# Altium schematic symbol library Sch_GB_lib.SchLib: 489 symbols (part 3 of 5)
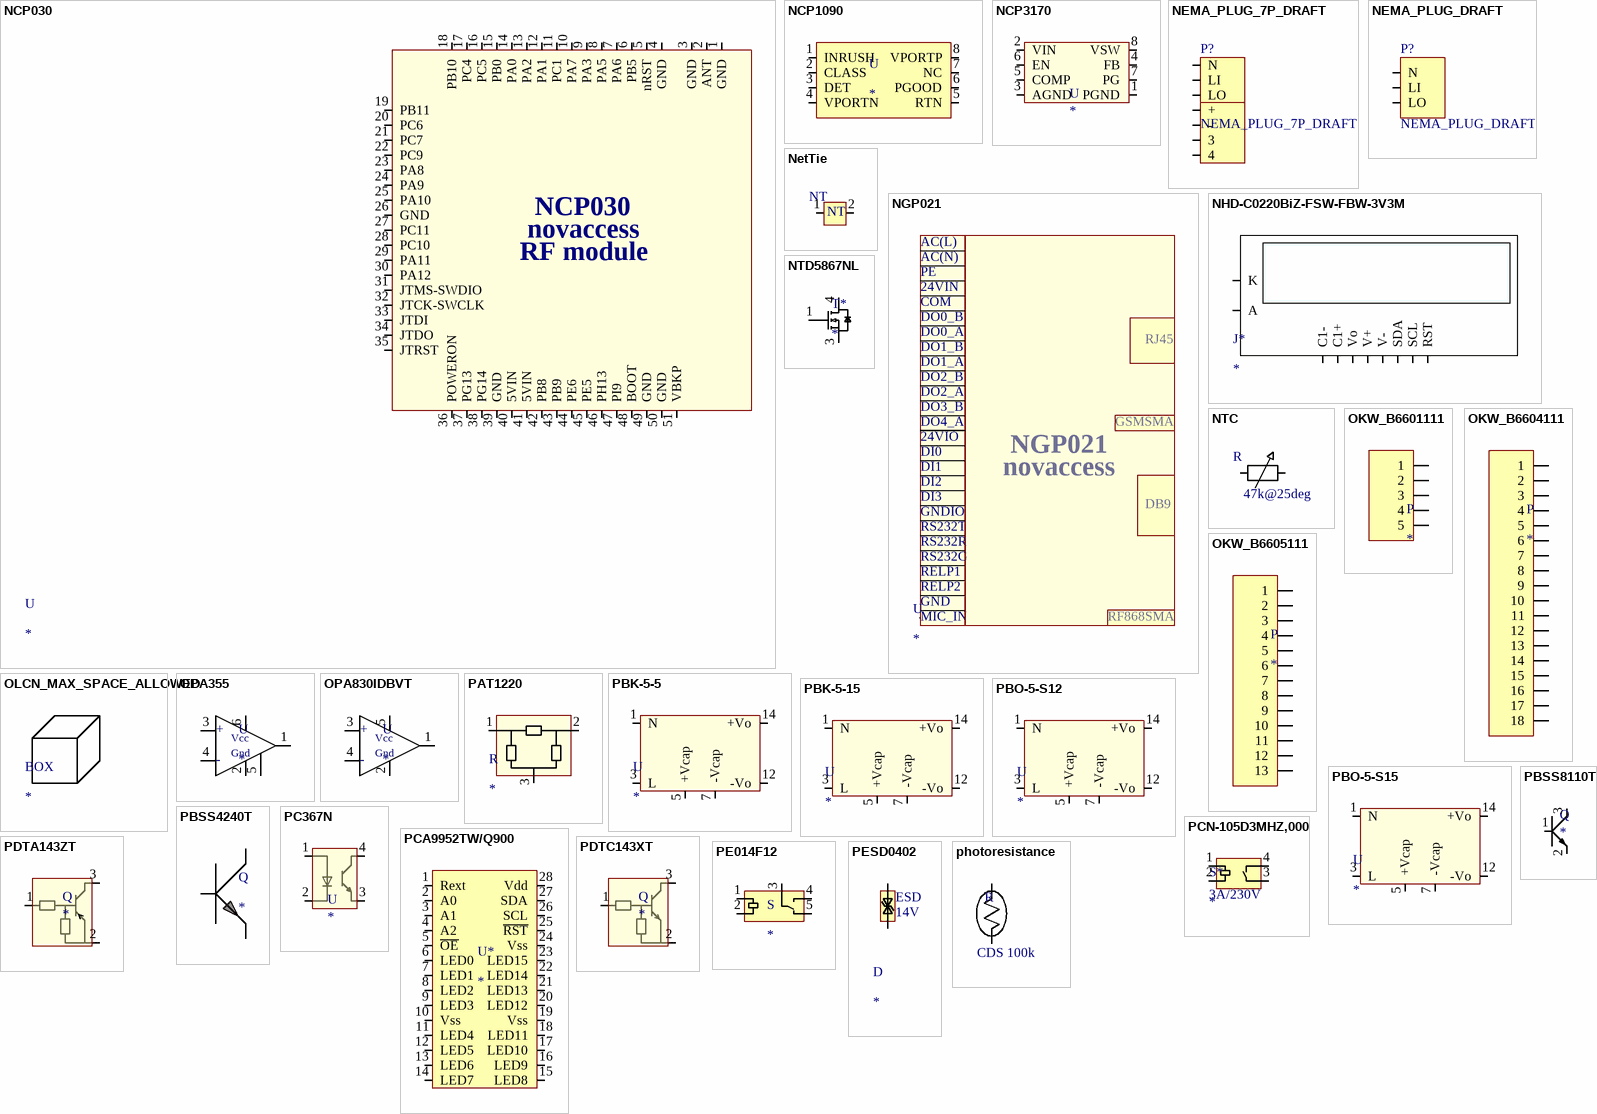
[diagram p19: symbols NCP030 to photoresistance]

## PBO-5-S12
designator U
AC DC CONVERTER 15V 5W; Alternate part: Mornsun LS05-15B12SS; Manufacturer: CUI Inc.; Manufacturer PartNum: PBO-5-S12; Digikey ref: 102-4079-ND; Farnell ref: *
footprint PBO-5 (CUI Inc AC-DC Power supply, 42x14x20mm)
pins: 1 N, 3 L, 5 +Vcap, 7 -Vcap, 12 -Vo, 14 +Vo

## PBO-5-S15
designator U
AC DC CONVERTER 15V 5W; Alternate part: Mornsun LS05-15B15SS; Digikey ref: 102-4080-ND; Farnell ref: *
footprint PBO-5 (CUI Inc AC-DC Power supply, 42x14x20mm)
pins: 1 N, 3 L, 5 +Vcap, 7 -Vcap, 12 -Vo, 14 +Vo

## PBSS4240T
designator Q
Farnell ref: 8736243
footprint SOT23 (SOT23, 2.9x1.3mm, 3 leads)
pins: 1, 2, 3

## PBSS8110T
designator Q
Manufacturer: NXP; Manufacturer PartNum: PBSS8110T,215; Digikey ref: 568-4344-1-ND
footprint sot23 (SOT23, 2.9x1.3mm, 3 leads)
pins: 1 Base, 2 Emitter, 3 Colloctor

## PC367N
designator U
Farnell ref: 1243876; Digikey ref: *
footprint OPTO_SHARP (Custom Optocoupler case for Sharp PC367N)
pins: 1 A, 2 C, 3 E, 4 C

## PCA9952TW/Q900
designator U*
Digikey ref: 568-10954-1-ND; Farnell ref: *; status: *
footprint HTSSOP28 (TSOP, 128-Leads, Body 9.7x4.4mm, Pitch 0.65mm, IPC Medium Density)
pins: 1 Rext, 2 A0, 3 A1, 4 A2, 5 ~{OE}, 6 LED0, 7 LED1, 8 LED2, 9 LED3, 10 Vss, 11 LED4, 12 LED5, 13 LED6, 14 LED7, 15 LED8, 16 LED9, 17 LED10, 18 LED11, 19 Vss, 20 LED12, 21 LED13, 22 LED14, 23 LED15, 24 Vss, 25 ~{RST}, 26 SCL, 27 SDA, 28 Vdd

## PCN-105D3MHZ,000
designator S*  Ratings: 3A/230V
RELAY GENERAL PURPOSE SPST 3A 5V; Manufacturer PartNum: PCN-105D3MHZ,000; Manufacturer: Tyco Connectivity; Digikey ref: PCN-105D3MHZ 000-ND
footprint TYCO_PCN (Slimline PCB Relay PCN, 230V/3A switching)
pins: 1 A2, 2 A1, 3 I, 4 O1

## PDTA143ZT
designator Q
Farnell ref: 8736960
footprint SOT23 (SOT23, 2.9x1.3mm, 3 leads)
pins: 1 base, 2 emitter, 3 collector

## PDTC143XT
designator Q
Farnell ref: 8737258
footprint SOT23 (SOT23, 2.9x1.3mm, 3 leads)
pins: 1 base, 2 emitter, 3 collector

## PE014F12
designator S
TYCO bistable relay, 230V/5A; Farnell ref: 9913459
footprint PE014F12 (TYCo bistable relay, 230V/5A)
pins: 1 A2, 2 A1, 3 I, 4 O1, 5 O2

## PESD0402
designator D  Uclamp: 14V  Purpose: ESD
TVS DIODE 14VWM 40VC 0402; Manufacturer PartNum: PESD0402-140; Manufacturer: Littelfuse Inc; Digikey ref: PESD0402-140CT-ND
footprint 0402_ (SMD 0402 package, 0.6x1.5mm)
pins: 1, 2

## photoresistance
designator R  value CDS 100k  (hidden comment: *)
photoresistor; Farnell ref: 4083544
footprint photoresistor_vertical_mount (generic CDS photoresistor with 2 leads, vertical mounting)
pins: 1, 2

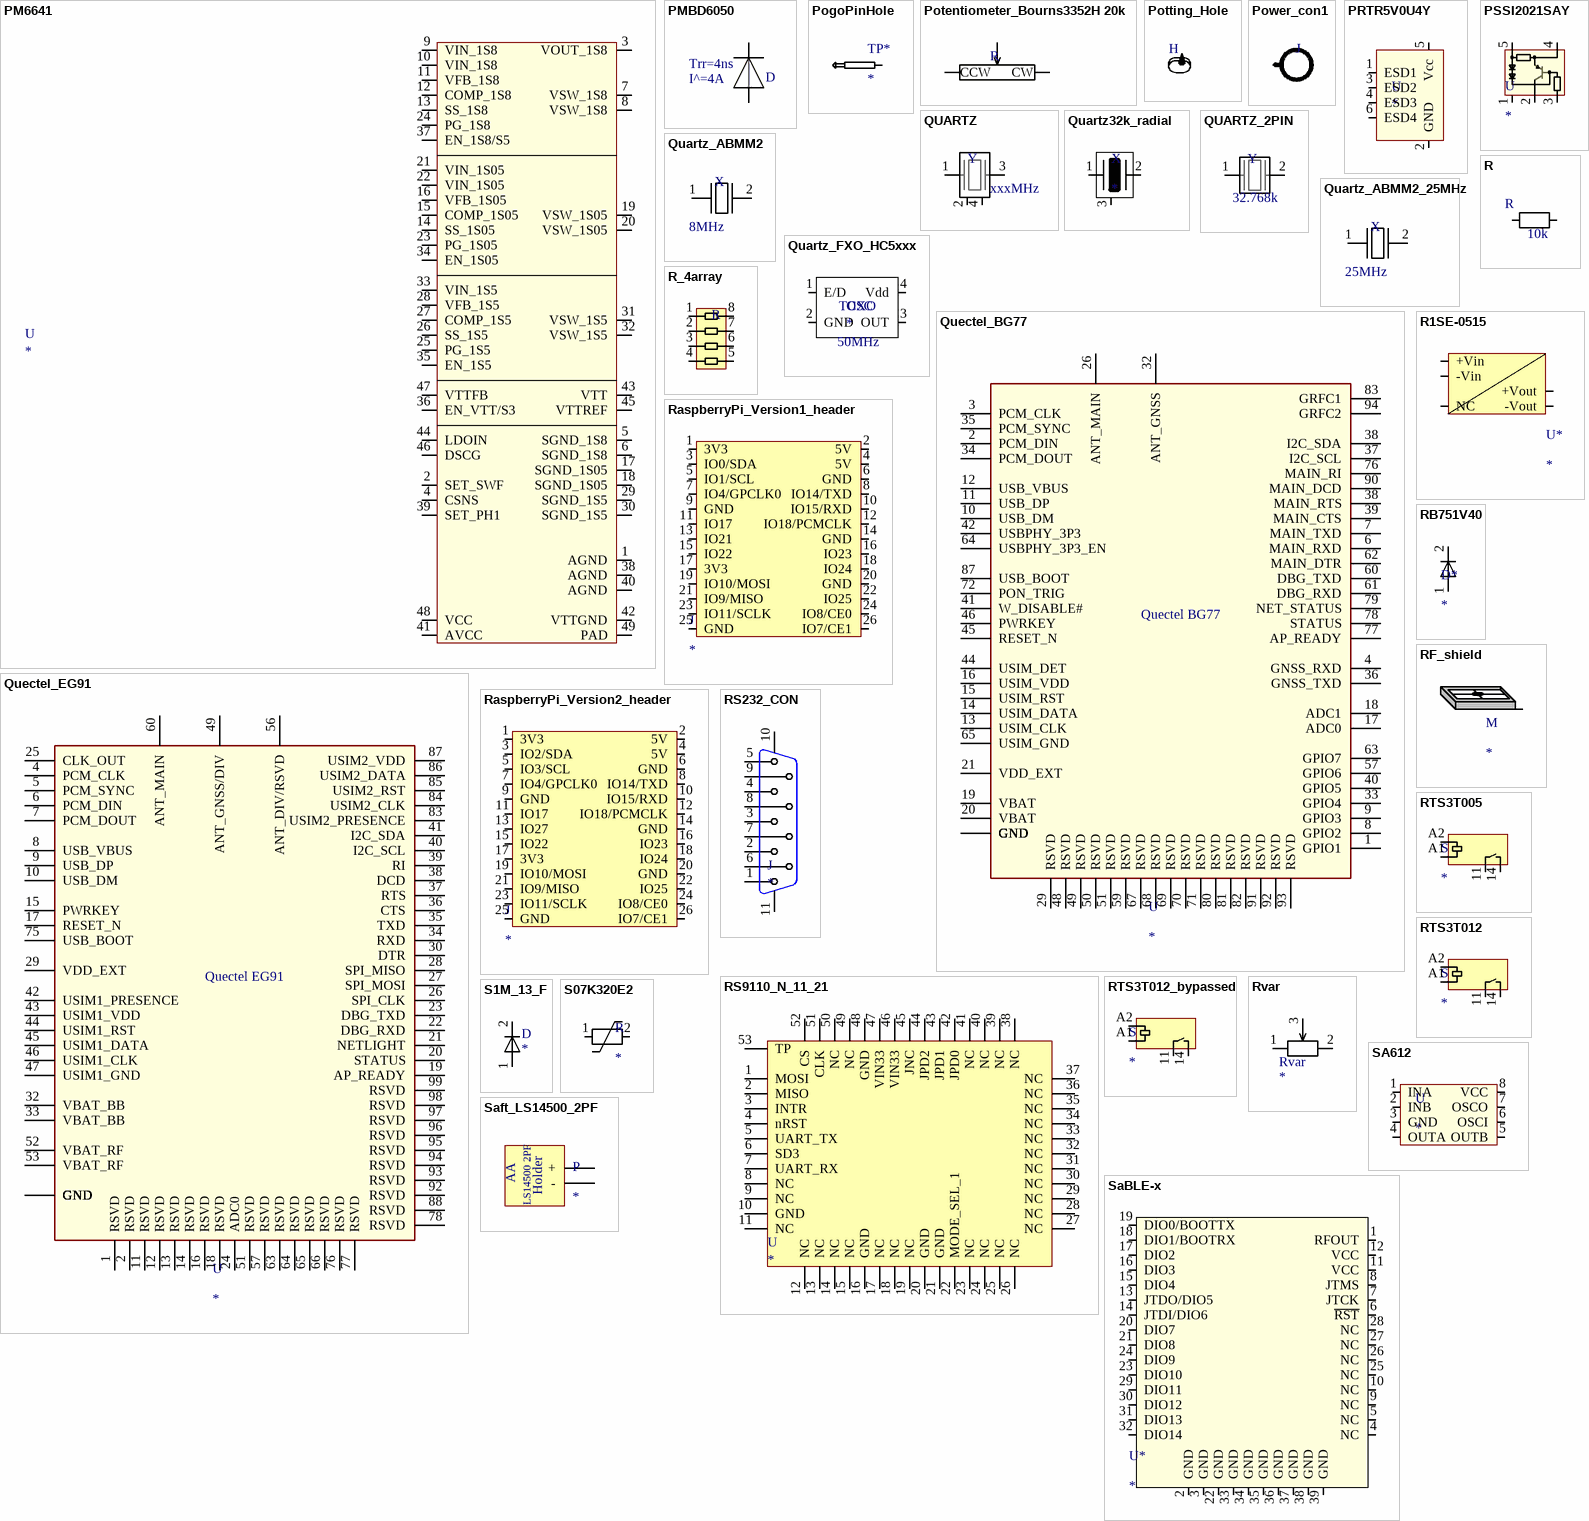
[diagram p10: symbols PM6641 to Saft_LS14500_2PF]

## PM6641
designator U
Digikey ref: 497-6893-1-ND
footprint UFQFPN48 (QFPN 7x7mm pitch 0.5mm)
pins: 1 AGND, 2 SET_SWF, 3 VOUT_1S8, 4 CSNS, 5 SGND_1S8, 6 SGND_1S8, 7 VSW_1S8, 8 VSW_1S8, 9 VIN_1S8, 10 VIN_1S8, 11 VFB_1S8, 12 COMP_1S8, 13 SS_1S8, 14 SS_1S05, 15 COMP_1S05, 16 VFB_1S05, 17 SGND_1S05, 18 SGND_1S05, 19 VSW_1S05, 20 VSW_1S05, 21 VIN_1S05, 22 VIN_1S05, 23 PG_1S05, 24 PG_1S8, 25 PG_1S5, 26 SS_1S5, 27 COMP_1S5, 28 VFB_1S5, 29 SGND_1S5, 30 SGND_1S5, 31 VSW_1S5, 32 VSW_1S5, 33 VIN_1S5, 34 EN_1S05, 35 EN_1S5, 36 EN_VTT/S3, 37 EN_1S8/S5, 38 AGND, 39 SET_PH1, 40 AGND, 41 AVCC, 42 VTTGND, 43 VTT, 44 LDOIN, 45 VTTREF, 46 DSCG, 47 VTTFB, 48 VCC, 49 PAD

## PMBD6050
designator D  (value not drawn)
footprint SOT23 (SOT-23; 3 Leads; Body 3.1 x 2.5 mm, inc. leads (LxW max), Alternate Lead Configuration)
pins: 1, 2
text: Trr=4ns; I^=4A

## PogoPinHole
designator TP*
2.54MM CENTER TWO PART PROBE; Manufacturer: Pomona Electronics; Manufacturer PartNum: 6212; Digikey ref: 501-1827-ND
footprint PogoPinHole (generic hole, that can hold a Pogo-pin (0.7mm))
pins: 1

## Potentiometer_Bourns3352H 20k
designator R  (value not drawn)
Farnell ref: 2113963; Digikey ref: 3352H-203LF-ND
footprint BOURNS_POT_3352H (3352 - 3/8'' Round Trimpot® Trimming Potentiometer)
pins: 1 CCW, 2 WIPER, 3 CW

## Potting_Hole
designator H  (value not drawn)  (no BOM)
potting hole
footprint Potting_Hole (Potting hole)

## Power_con1
designator J  (value not drawn)
Power connector
footprint PowerHole_2layers (trough hole, 2 layers, power link)
pins: 1

## PRTR5V0U4Y
designator U
Farnell ref: 1757870; Digikey ref: 568-6542-1-ND
footprint SOT363 (SOT353, 2.2x1.2mm package, 0.65mm spacing, low density)
pins: 1 ESD1, 2 GND, 3 ESD2, 4 ESD3, 5 Vcc, 6 ESD4

## PSSI2021SAY
designator U
manufacturer: NXP; Manufacturer PartNum: PSSI2021SAY,115; Digikey ref: 568-5037-1-ND
footprint SOT353 (SOT353, 2.2x1.2mm package, 0.65mm spacing, low density)
pins: 1 NC, 2 IOUT, 3 GND, 4 REXT, 5 VS

## QUARTZ
designator Y  value xxxMHz  (hidden comment: *)
Digikey ref: ?; Farnell ref: ?
footprint Quartz_low_profile (Quartz, case 2.5x2.0mm, 4-pins)
footprint FA_128 (Crystal Unit Ultra Miniature Size Low Profile SMD MHz range)
pins: 1, 2, 3, 4

## Quartz32k_radial
designator X
quartz 32768 Hz radial
footprint Quartz32k_radial_horizontal
pins: 1, 2, 3

## QUARTZ_2PIN
designator Y  value 32.768k  (hidden comment: *)
Farnell ref: 2101347; Digikey ref: 535-9542-1-ND
footprint Quartz_low_profile_2pin (Quartz, case 3.2x1.5mm, 2-pins, (ABRACON model))
pins: 1, 2

## Quartz_ABMM2
designator X  value 8MHz  (hidden comment: *)
Abracon ABMM2 8MHz quartz; Farnell ref: 1611803
footprint Quartz_CMS_6x3.6mm (CMS quartz, 6x3.6x1.2mm)
pins: 1, 2

## Quartz_ABMM2_25MHz
designator X  value 25MHz  (hidden comment: *)
Abracon ABMM2 25MHz quartz; Farnell ref: 1611799
footprint Quartz_CMS_6x3.6mm (CMS quartz, 6x3.6x1.2mm)
pins: 1, 2

## Quartz_FXO_HC5xxx
designator OSC  value 50MHz
Digikey ref: 631-1166-1-ND
footprint FXO-HC536R-1 (HCMOS, CERAMIC, SMD, OSCILLATOR)
pins: 1 E/D, 2 GND, 3 OUT, 4 Vdd
text: TCXO

## Quectel_BG77
designator U
Quectel LLPWA LGA module; Manufacturer PartNum: BG77??; Manufacturer: Quectel
footprint QUECTEL_BG77 (BG77 cellular LPWA module, LGA package, 12.9*14.9x1.7mm)
pins: 1 GPIO1, 2 PCM_DIN, 3 PCM_CLK, 4 GNSS_RXD, 6 MAIN_RXD, 7 MAIN_TXD, 8 GPIO2, 9 GPIO3, 10 USB_DM, 11 USB_DP, 12 USB_VBUS, 13 USIM_CLK, 14 USIM_DATA, 15 USIM_RST, 16 USIM_VDD, 17 ADC0, 18 ADC1, 19 VBAT, 20 VBAT, 21 VDD_EXT, 22 GND, 23 GND, 24 GND, 25 GND, 26 ANT_MAIN, 27 GND, 28 GND, 29 RSVD, 30 GND, 31 GND, 32 ANT_GNSS, 33 GPIO4, 34 PCM_DOUT, 35 PCM_SYNC, 36 GNSS_TXD, 37 I2C_SCL, 38 MAIN_RTS, 38 I2C_SDA, 39 MAIN_CTS, 40 GPIO5, 41 W_DISABLE#, 42 USBPHY_3P3, 43 GND, 44 USIM_DET, 45 RESET_N, 46 PWRKEY, 47 GND, 48 RSVD, 49 RSVD, 50 RSVD, 51 RSVD, 52 GND, 53 GND, 54 GND, 55 GND, 56 GND, 57 GPIO6, 58 GND, 59 RSVD, 60 DBG_TXD, 61 DBG_RXD, 62 MAIN_DTR, 63 GPIO7, 64 USBPHY_3P3_EN, 65 USIM_GND, 66 GND, 67 RSVD, 68 RSVD, 69 RSVD, 70 RSVD, 71 RSVD, 72 PON_TRIG, 73 GND, 74 GND, 75 GND, 76 MAIN_RI, 77 AP_READY, 78 STATUS, 79 NET_STATUS, 80 RSVD, 81 RSVD, 82 RSVD, 83 GRFC1, 84 GND, 85 GND, 86 GND, 87 USB_BOOT, 88 GND, 89 GND, 90 MAIN_DCD, 91 RSVD, 92 RSVD, 93 RSVD, 94 GRFC2
text: Quectel BG77

## Quectel_EG91
designator U
Quectel LTE/3G/2G LCC module; Manufacturer PartNum: EG91ECGA-128-SGNS; Manufacturer: Quectel
footprint QUECTEL_EG91 (EG91 cellular module, LCC package, 29*29x2.25mm)
pins: 1 RSVD, 2 RSVD, 3 GND, 4 PCM_CLK, 5 PCM_SYNC, 6 PCM_DIN, 7 PCM_DOUT, 8 USB_VBUS, 9 USB_DP, 10 USB_DM, 11 RSVD, 12 RSVD, 13 RSVD, 14 RSVD, 15 PWRKEY, 16 RSVD, 17 RESET_N, 18 RSVD, 19 AP_READY, 20 STATUS, 21 NETLIGHT, 22 DBG_RXD, 23 DBG_TXD, 24 ADC0, 25 CLK_OUT, 26 SPI_CLK, 27 SPI_MOSI, 28 SPI_MISO, 29 VDD_EXT, 30 DTR, 31 GND, 32 VBAT_BB, 33 VBAT_BB, 34 RXD, 35 TXD, 36 CTS, 37 RTS, 38 DCD, 39 RI, 40 I2C_SCL, 41 I2C_SDA, 42 USIM1_PRESENCE, 43 USIM1_VDD, 44 USIM1_RST, 45 USIM1_DATA, 46 USIM1_CLK, 47 USIM1_GND, 48 GND, 49 ANT_GNSS/DIV "ANT_DIV for EG91-E, ANT_GNSS for EG91-EC", 50 GND, 51 RSVD, 52 VBAT_RF, 53 VBAT_RF, 54 GND, 55 GND, 56 ANT_DIV/RSVD "ANT_DIV for EG91-EC, RESERVED for EG91-E", 57 RSVD, 58 GND, 59 GND, 60 ANT_MAIN, 61 GND, 62 GND, 63 RSVD, 64 RSVD, 65 RSVD, 66 RSVD, 67 GND, 68 GND, 69 GND, 70 GND, 71 GND, 72 GND, 73 GND, 74 GND, 75 USB_BOOT, 76 RSVD, 77 RSVD, 78 RSVD, 79 GND, 80 GND, 81 GND, 82 GND, 83 USIM2_PRESENCE, 84 USIM2_CLK, 85 USIM2_RST, 86 USIM2_DATA, 87 USIM2_VDD, 88 RSVD, 89 GND, 90 GND, 91 GND, 92 RSVD, 93 RSVD, 94 RSVD, 95 RSVD, 96 RSVD, 97 RSVD, 98 RSVD, 99 RSVD, 100 GND, 101 GND, 102 GND, 103 GND, 104 GND, 105 GND, 106 GND
text: Quectel EG91

## R
designator R  value 10k  (hidden comment: *)
Standard resistor; Farnell ref: *
footprint 0402 (SMD 0402 package, 0.6x1.5mm)
footprint 0603c (standard 0603 FP)
footprint 0805 (standard 0805 FP)
footprint 1206 (1206 1.6x3.2mm)
pins: 1, 2

## R1SE-0515
designator U*
Manufacturer: Recom Power; Manufacturer PartNum: R1SE-0515/H2-R; Digikey ref: 945-2274-1-ND; status: *
footprint R1SE/H2 (Recom isolated DC/DC R1SE/H2 series)
pins: 1 -Vin, 2 +Vin, 4 -Vout, 5 +Vout, 8 NC

## R_4array
designator R  (value not drawn)
Resistor array, 4xR; value: 1k; Farnell ref: 9234519
footprint YC164 (Resistor array, YAGEO, 4x0603R)
pins: 1, 2, 3, 4, 5, 6, 7, 8

## RaspberryPi_Version1_header
designator J  (no BOM)
footprint header2x13_bottom (header female 2x13 pins, path 2.54mm, reverse mount)
pins: 1 3V3, 2 5V, 3 IO0/SDA, 4 5V, 5 IO1/SCL, 6 GND, 7 IO4/GPCLK0, 8 IO14/TXD, 9 GND, 10 IO15/RXD, 11 IO17, 12 IO18/PCMCLK, 13 IO21, 14 GND, 15 IO22, 16 IO23, 17 3V3, 18 IO24, 19 IO10/MOSI, 20 GND, 21 IO9/MISO, 22 IO25, 23 IO11/SCLK, 24 IO8/CE0, 25 GND, 26 IO7/CE1

## RaspberryPi_Version2_header
designator J  (no BOM)
footprint header2x13_bottom (header female 2x13 pins, path 2.54mm, reverse mount)
pins: 1 3V3, 2 5V, 3 IO2/SDA, 4 5V, 5 IO3/SCL, 6 GND, 7 IO4/GPCLK0, 8 IO14/TXD, 9 GND, 10 IO15/RXD, 11 IO17, 12 IO18/PCMCLK, 13 IO27, 14 GND, 15 IO22, 16 IO23, 17 3V3, 18 IO24, 19 IO10/MOSI, 20 GND, 21 IO9/MISO, 22 IO25, 23 IO11/SCLK, 24 IO8/CE0, 25 GND, 26 IO7/CE1

## RB751V40
designator D*
Imax: 120mA; VF@Imax: 0.8V; Farnell ref: *; Digikey ref: 568-8119-1-ND
footprint SOD323 (SOD323F 1.8x1.35mm, total legth 2.7mm, lead width 0.4mm)
footprint sod323 (SOD323F 1.8x1.35mm, total legth 2.7mm, lead width 0.4mm)
pins: 1, 2

## RF_shield
designator M
Manufacturer: Holland Shielding Systems BV; Ref: 1500-10-25-3
footprint RF_SHIELD_10x25x3
footprint RF_SHIELD_LAIRD_BMI-S-203-F (Laird Tech 26,21x26,21x5.08mm , two-piece)
footprint RF_SHIELD_LAIRD_BMI-S-203-F_CAP (Laird Tech 26,21x26,21x5.08mm , two-piece, with CAP)
pins: 1

## RS232_CON
designator J
Digikey ref: 190-09MA-ND
footprint RS232-190-009-163R001 (9 pos, male RS232, surface mount)
pins: 1, 2, 3, 4, 5, 6, 7, 8, 9, 10, 11

## RS9110_N_11_21
designator U
Manufacturer: Redpine Signals; Manufacturer_part_no: RS9110-N-11-21-01
footprint RS9110-N-11-21 (Redpine Signals RS9110-N-11-21 WiFi module)
pins: 1 MOSI, 2 MISO, 3 INTR, 4 nRST, 5 UART_TX, 6 SD3, 7 UART_RX, 8 NC, 9 NC, 10 GND, 11 NC, 12 NC, 13 NC, 14 NC, 15 NC, 16 GND, 17 NC, 18 NC, 19 NC, 20 GND, 21 GND, 22 MODE_SEL_1, 23 NC, 24 NC, 25 NC, 26 NC, 27 NC, 28 NC, 29 NC, 30 NC, 31 NC, 32 NC, 33 NC, 34 NC, 35 NC, 36 NC, 37 NC, 38 NC, 39 NC, 40 NC, 41 NC, 42 JPD0, 43 JPD1, 44 JPD2, 45 JNC, 46 VIN33, 47 VIN33, 48 GND, 49 NC, 50 NC, 51 CLK, 52 CS, 53 TP

## RTS3T005
designator S
RELAY GEN PURPOSE SPST 16A 5V; Manufacturer PartNum: RTS3T005; Manufacturer: TE Connectivity; Digikey ref: PB2107-ND
footprint RTS3T005 (RELAY GEN PURPOSE SPST 16A 5V)
pins: 11, 14, A1, A2

## RTS3T012
designator S
RELAY GEN PURPOSE SPST 16A 12V; Manufacturer PartNum: RTS3T012; Manufacturer: TE Connectivity; Digikey ref: PB1137-ND
footprint RTS3TXXX (RELAY GEN PURPOSE SPST 16A)
pins: 11, 14, A1, A2

## RTS3T012_bypassed
designator S
bypass wire to replace unpopulated relay; Manufacturer PartNum: JW80ZT0R00; Manufacturer: Stackpole Electronics Inc.; Digikey ref: JW80ZT0R00CT-ND
footprint RTS3TXXX_not_fitted (wire bond to bypass the unmount relay)
pins: 11, 14, A1, A2

## Rvar
designator Rvar
Farnell ref: 9607943
footprint Rvar_vishay
pins: 1, 2, 3

## S1M_13_F
designator D
DIODE GEN PURP 1KV 1A SMA; Manufacturer PartNum: S1M-13-F; Manufacturer: Diodes Inc.; Digikey ref: S1M-FDICT-ND
footprint DO-214AC (DO-214AC SMA case 4.25x2.6mm, height 2.3mm)
pins: 1, 2

## S07K320E2
designator R
VARISTOR 510V 1.75KA DISC 7MM; Manufacturer PartNum: S07K320E2; Manufacturer: Epcos; Digikey ref: 495-1428-ND
footprint S07K320E2 (EPCOS VARISTOR 510V 1.75KA DISC 7MM)
pins: 1, 2

## SA612
designator U
IC mixer/OSC 8-soic; Digikey ref: 568-1204-5-ND
footprint SO-8_M (8-Pin Small Outline Integrated Circuit 1.27 mm Pitch, IPC Low Density)
pins: 1 INA, 2 INB, 3 GND, 4 OUTA, 5 OUTB, 6 OSCI, 7 OSCO, 8 VCC

## SaBLE-x
designator U*
MODULE SABLE-X TRACE ANT; Manufacturer PartNum: 450-0119C; Manufacturer: LSR; Infos: BLE 4.1; Digikey ref: 450-0119C-ND
footprint SaBLE-x (SaBLE-xTM Bluetooth® Smart (BLE) Module)
pins: 1 RFOUT, 2 GND, 3 GND, 4 NC, 5 NC, 6 ~{RST}, 7 JTCK, 8 JTMS, 9 NC, 10 NC, 11 VCC, 12 VCC, 13 JTDO/DIO5, 14 JTDI/DIO6, 15 DIO4, 16 DIO3, 17 DIO2, 18 DIO1/BOOTRX, 19 DIO0/BOOTTX, 20 DIO7, 21 DIO8, 22 GND, 23 DIO10, 24 DIO9, 25 NC, 26 NC, 27 NC, 28 NC, 29 DIO11, 30 DIO12, 31 DIO13, 32 DIO14, 33 GND, 34 GND, 35 GND, 36 GND, 37 GND, 38 GND, 39 GND

## Saft_LS14500_2PF
designator P
Distrelec ref: 973082
footprint Saft_LS14500_2PF_battery (AA battery holded with two leads, horizontal mount)
footprint Saft_LS14500_3PF_battery (AA battery holded with three leads, horizontal mount)
pins: 1 -, 2 +
text: AA; Holder; LS14500 2PF

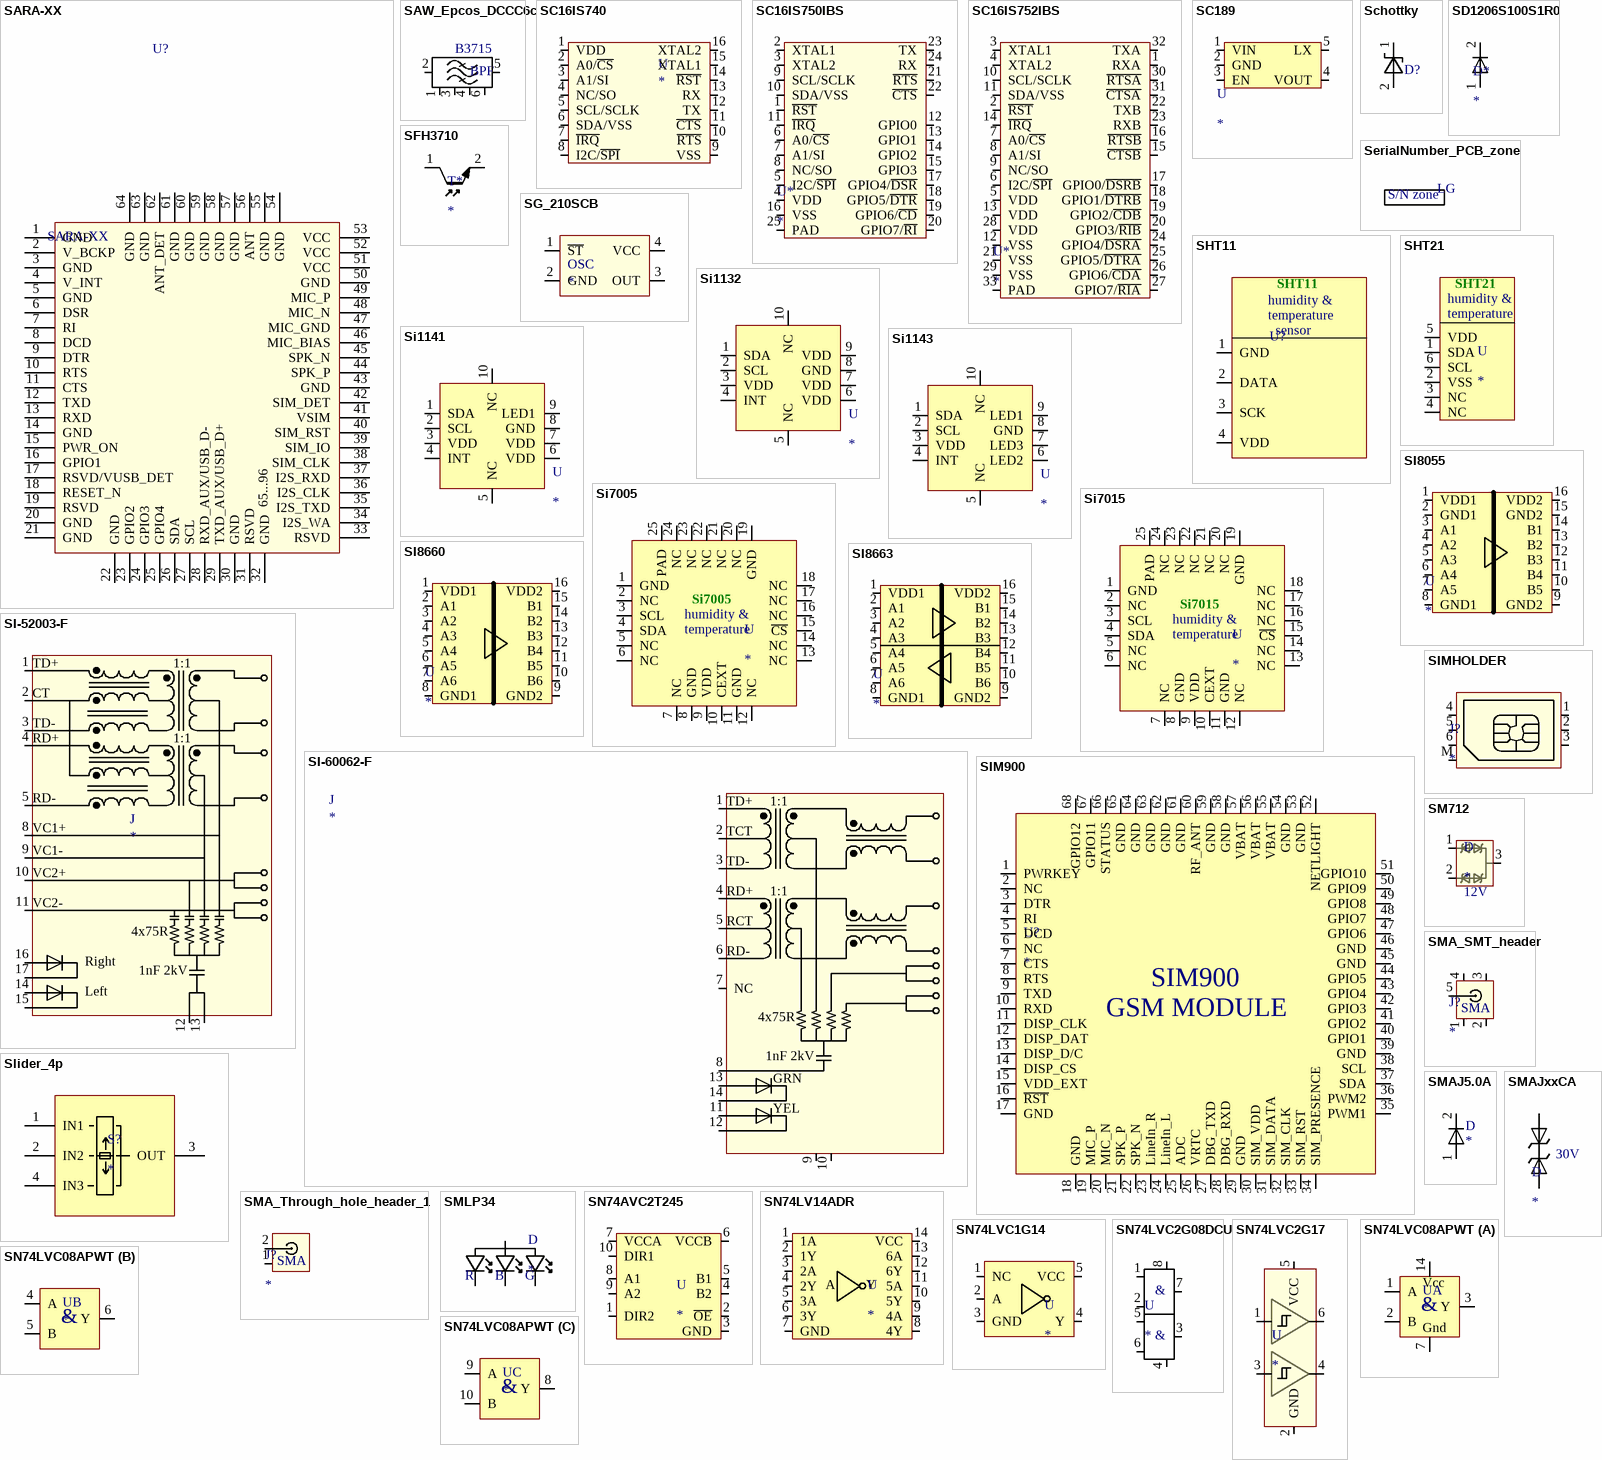
[diagram p11: symbols SARA-XX to SN74LVC08APWT]

## SARA-XX
designator U?
GSM/GPRS and GSM/EGPRS/HSPA Cellular Module; Manufacturer: u-blox; Part Description: GSM/EGPRS/HSPA module; Value: SARA-XX
footprint SARA-XX (GSM/GPRS and GSM/EGPRS/HSPA   Cellular Module)
pins: 1 GND, 2 V_BCKP, 3 GND, 4 V_INT, 5 GND, 6 DSR, 7 RI, 8 DCD, 9 DTR, 10 RTS, 11 CTS, 12 TXD, 13 RXD, 14 GND, 15 PWR_ON, 16 GPIO1, 17 RSVD/VUSB_DET, 18 RESET_N, 19 RSVD, 20 GND, 21 GND, 22 GND, 23 GPIO2, 24 GPIO3, 25 GPIO4, 26 SDA, 27 SCL, 28 RXD_AUX/USB_D-, 29 TXD_AUX/USB_D+, 30 GND, 31 RSVD, 32 GND, 33 RSVD, 34 I2S_WA, 35 I2S_TXD, 36 I2S_CLK, 37 I2S_RXD, 38 SIM_CLK, 39 SIM_IO, 40 SIM_RST, 41 VSIM, 42 SIM_DET, 43 GND, 44 SPK_P, 45 SPK_N, 46 MIC_BIAS, 47 MIC_GND, 48 MIC_N, 49 MIC_P, 50 GND, 51 VCC, 52 VCC, 53 VCC, 54 GND, 55 GND, 56 ANT, 57 GND, 58 GND, 59 GND, 60 GND, 61 GND, 62 ANT_DET, 63 GND, 64 GND, 65 GND, 66 GND, 67 GND, 68 GND, 69 GND, 70 GND, 71 GND, 72 GND, 73 GND, 74 GND, 75 GND, 76 GND, 77 GND, 78 GND, 79 GND, 80 GND, 81 GND, 82 GND, 83 GND, 84 GND, 85 GND, 86 GND, 87 GND, 88 GND, 89 GND, 90 GND, 91 GND, 92 GND, 93 GND, 94 GND, 95 GND, 96 GND
text: 65...96

## SAW_Epcos_DCCC6c
designator BPF  value B3715  (hidden comment: *)
Digikey ref: 495-2361-1-ND; Farnell ref: 2309080
footprint SAW_B3715 (Epcos SAW Filter 6 leads, case 3x3mm, height 1.1mm)
pins: 1 GND, 2 IN, 3 GND, 4 GND, 5 OUT, 6 GND

## SC16IS740
designator U
Digikey ref: 568-3648-5-ND; Farnell ref: 2101308; datasheet: http://www.nxp.com/documents/data_sheet/SC16IS740_750_760.pdf
footprint TSSOP-ST16_N (TSOP, 16-Leads, Body 5x4.4mm, Pitch 0.65mm, IPC Medium Density)
pins: 1 VDD, 2 A0/~{CS}, 3 A1/SI, 4 NC/SO, 5 SCL/SCLK, 6 SDA/VSS, 7 ~{IRQ}, 8 I2C/~{SPI}, 9 VSS, 10 ~{RTS}, 11 ~{CTS}, 12 TX, 13 RX, 14 ~{RST}, 15 XTAL1, 16 XTAL2

## SC16IS750IBS
designator U*
Single UART with I2C-bus/SPI IF, 64B TX & RX FIFOs; Digikey ref: 568-2234-ND; Mouser ref: 771-SC16IS750IBS151; Farnell ref: 2407839
footprint HVQFN24 (QFN 24 pins, 4x4mm,1mm, pitch 0.5mm)
pins: 1 ~{RST}, 2 XTAL1, 3 XTAL2, 4 VDD, 5 I2C/~{SPI}, 6 A0/~{CS}, 7 A1/SI, 8 NC/SO, 9 SCL/SCLK, 10 SDA/VSS, 11 ~{IRQ}, 12 GPIO0, 13 GPIO1, 14 GPIO2, 15 GPIO3, 16 VSS, 17 GPIO4/~{DSR}, 18 GPIO5/~{DTR}, 19 GPIO6/~{CD}, 20 GPIO7/~{RI}, 21 ~{RTS}, 22 ~{CTS}, 23 TX, 24 RX, 25 PAD

## SC16IS752IBS
designator U*
Dual UART with I2C-bus/SPI IF, 64B TX & RX FIFOs; Digikey ref: 568-2236-ND; Mouser ref: 771-SC16IS752IBS-S; Farnell ref: 2212113
footprint HVQFN32 (QFN 32 pins, 5x5x1mm, pitch 0.5mm)
pins: 1 RXA, 2 ~{RST}, 3 XTAL1, 4 XTAL2, 5 VDD, 6 I2C/~{SPI}, 7 A0/~{CS}, 8 A1/SI, 9 NC/SO, 10 SCL/SCLK, 11 SDA/VSS, 12 VSS, 13 VDD, 14 ~{IRQ}, 15 ~{CTSB}, 16 ~{RTSB}, 17 GPIO0/~{DSRB}, 18 GPIO1/~{DTRB}, 19 GPIO2/~{CDB}, 20 GPIO3/~{RIB}, 21 VSS, 22 TXB, 23 RXB, 24 GPIO4/~{DSRA}, 25 GPIO5/~{DTRA}, 26 GPIO6/~{CDA}, 27 GPIO7/~{RIA}, 28 VDD, 29 VSS, 30 ~{RTSA}, 31 ~{CTSA}, 32 TXA, 33 PAD

## SC189
designator U
Farnell ref: *; Digikey ref: SC189LSKCT-ND
footprint SOT23-5 (SOT23, 5 pins, pitch 0.95mm, case 3x1.6mm)
pins: 1 VIN, 2 GND, 3 EN, 4 VOUT, 5 LX

## Schottky
designator D?  (value not drawn)
Farnell ref: *
footprint SOD-123 (SOD-123; 2 Leads; Body 2.7 x 1.6 mm, (LxW))
footprint SOD323 (SOD323F 1.8x1.35mm, total legth 2.7mm, lead width 0.4mm)
pins: 1, 2

## SD1206S100S1R0
designator D*
Digikey ref: 478-7807-1-ND
footprint 1206_POL
pins: 1, 2

## SerialNumber_PCB_zone
designator LG  (value not drawn)
footprint SerialNumber_zone (empty zone for placing a serial number)
text: S/N zone

## SFH3710
designator T*
Digikey ref: 475-2651-1-ND; Farnell ref: *
footprint 0805_ (standard 0805 FP)
pins: 1 C, 2 E

## SG_210SCB
designator OSC
Digikey ref: SER3707CT-ND
footprint SG_210SCB (Epson Toyocom Crystal oscillator footprint for SG-210SCB 25.0000ML3)
pins: 1 ~{ST}, 2 GND, 3 OUT, 4 VCC

## SHT11
designator U?  (value not drawn)
Farnell ref: 1590511
footprint SHT11 (SHT11 Sensirion humidity sensor PCB footprint)
pins: 1 GND, 2 DATA, 3 SCK, 4 VDD
text: humidity &; temperature; sensor

## SHT21
designator U
temperature and humidity sensor; Supplier 1: Farnell; Supplier Part Number 1: 1855468
footprint SHT21 (Sensirion SHT21 6 leads, 3.0x3.0x1.1mm)
pins: 1 SDA, 2 VSS, 3 NC, 4 NC, 5 VDD, 6 SCL
text: humidity &; temperature

## Si1132
designator U
Digikey ref: 336-2621-1-ND
footprint QFN10
pins: 1 SDA, 2 SCL, 3 VDD, 4 INT, 5 NC, 6 VDD, 7 VDD, 8 GND, 9 VDD, 10 NC

## Si1141
designator U
Digikey ref: 336-2199-1-ND
footprint QFN10
pins: 1 SDA, 2 SCL, 3 VDD, 4 INT, 5 NC, 6 VDD, 7 VDD, 8 GND, 9 LED1, 10 NC

## Si1143
designator U
Digikey ref: 336-2201-1-ND
footprint QFN10
pins: 1 SDA, 2 SCL, 3 VDD, 4 INT, 5 NC, 6 LED2, 7 LED3, 8 GND, 9 LED1, 10 NC

## Si7005
designator U
Digikey ref: 336-2330-5-ND
footprint QFN24 (QFN 24 pins, 4x4mm, 0.5mm)
pins: 1 GND, 2 NC, 3 SCL, 4 SDA, 5 NC, 6 NC, 7 NC, 8 GND, 9 VDD, 10 CEXT, 11 GND, 12 NC, 13 NC, 14 NC, 15 ~{CS}, 16 NC, 17 NC, 18 NC, 19 GND, 20 NC, 21 NC, 22 NC, 23 NC, 24 NC, 25 PAD
text: humidity &; temperature

## Si7015
designator U
Digikey ref: 336-2536-1-ND; Mouser ref: 634-SI7015-A-FM
footprint QFN24 (QFN 24 pins, 4x4mm, 0.5mm)
pins: 1 GND, 2 NC, 3 SCL, 4 SDA, 5 NC, 6 NC, 7 NC, 8 GND, 9 VDD, 10 CEXT, 11 GND, 12 NC, 13 NC, 14 NC, 15 ~{CS}, 16 NC, 17 NC, 18 NC, 19 GND, 20 NC, 21 NC, 22 NC, 23 NC, 24 NC, 25 PAD
text: humidity &; temperature

## SI8055
designator U
DGTL ISO 1KV 5CH GEN PURP 16QSOP; Manufacturer: Silicon Laboratories; Manufacturer PartNum: SI8055AA-B-IU; Digikey ref: 336-3023-ND
footprint QSOP-16 (SOP, 16-Leads, Body 4.9x3.9mm, Pitch 0.635mm, IPC Medium Density)
pins: 1 VDD1, 2 GND1, 3 A1 (in), 4 A2 (in), 5 A3 (in), 6 A4 (in), 7 A5 (in), 8 GND1, 9 GND2, 10 B5 (out), 11 B4 (out), 12 B3 (out), 13 B2 (out), 14 B1 (out), 15 GND2, 16 VDD2

## SI8660
designator U
DGTL ISO 1KV 6CH GEN PURP 16SOIC; Manufacturer: Silicon Laboratories; Manufacturer PartNum: SI8660BA-B-IS1; Digikey ref: 336-2115-5-ND
footprint SOIC16 (case 10.3x4.55mm pitch 1.27mm 16 leads)
pins: 1 VDD1, 2 A1 (in), 3 A2 (in), 4 A3 (in), 5 A4 (in), 6 A5 (in), 7 A6 (in), 8 GND1, 9 GND2, 10 B6 (out), 11 B5 (out), 12 B4 (out), 13 B3 (out), 14 B2 (out), 15 B1 (out), 16 VDD2

## SI8663
designator U
DGTL ISO 3.75KV GEN PURP 16SOIC; Manufacturer: Silicon Laboratories; Manufacturer PartNum: SI8663BC-B-IS1; Digikey ref: 336-2128-5-ND
footprint SOIC16 (case 10.3x4.55mm pitch 1.27mm 16 leads)
pins: 1 VDD1, 2 A1 (in), 3 A2 (in), 4 A3 (in), 5 A4 (out), 6 A5 (out), 7 A6 (out), 8 GND1, 9 GND2, 10 B6 (in), 11 B5 (in), 12 B4 (in), 13 B3 (out), 14 B2 (out), 15 B1 (out), 16 VDD2

## SI-52003-F
designator J
Digikey ref: 380-1119-ND
footprint SI-52003-F (SI-52003-F JACK for PoE, 2xGreen Leds)
pins: 1 TD+, 2 CT, 3 TD-, 4 RD+, 5 RD-, 8 VC1+, 9 VC1-, 10 VC2+, 11 VC2-, 12 Shield1, 13 Shield2, 14 LEFT+, 15 LEFT-, 16 RIGHT+, 17 RIGHT-
text: 1:1; 4x75R; Right; 1nF 2kV; Left

## SI-60062-F
designator J
Digikey ref: 380-1106-ND; Farnell ref: 1137983
footprint RJ45_MAGJACK (SI-60062-F JACK 14 holes, Y+G LEDS)
pins: 1 TD+, 2 TCT, 3 TD-, 4 RD+, 5 RCT, 6 RD-, 7 NC, 8 GND, 9 M1, 10 M2, 11 GRN+, 12 GRN-, 13 YEL+, 14 YEL-
text: 1:1; 4x75R; 1nF 2kV; GRN; YEL

## SIM900
designator U?
SOSelectronics ref: 81028; Farnell ref: *; Digikey ref: *
footprint SIM900 (SIMCOM GSM module 24x24x3mm case, 68pins)
pins: 1 PWRKEY, 2 NC, 3 DTR, 4 RI, 5 DCD, 6 NC, 7 CTS, 8 RTS, 9 TXD, 10 RXD, 11 DISP_CLK, 12 DISP_DAT, 13 DISP_D/C, 14 DISP_CS, 15 VDD_EXT, 16 ~{RST}, 17 GND, 18 GND, 19 MIC_P, 20 MIC_N, 21 SPK_P, 22 SPK_N, 23 LineIn_R, 24 LineIn_L, 25 ADC, 26 VRTC, 27 DBG_TXD, 28 DBG_RXD, 29 GND, 30 SIM_VDD, 31 SIM_DATA, 32 SIM_CLK, 33 SIM_RST, 34 SIM_PRESENCE, 35 PWM1, 36 PWM2, 37 SDA, 38 SCL, 39 GND, 40 GPIO1, 41 GPIO2, 42 GPIO3, 43 GPIO4, 44 GPIO5, 45 GND, 46 GND, 47 GPIO6, 48 GPIO7, 49 GPIO8, 50 GPIO9, 51 GPIO10, 52 NETLIGHT, 53 GND, 54 GND, 55 VBAT, 56 VBAT, 57 VBAT, 58 GND, 59 GND, 60 RF_ANT, 61 GND, 62 GND, 63 GND, 64 GND, 65 GND, 66 STATUS, 67 GPIO11, 68 GPIO12
text: GSM MODULE

## SIMHOLDER
designator J?
Generic SIM holder symbol; Manufacturer: LINKCONN (LCN); Manufacturer PartNum: CAF99-06153-S139
footprint CAF99-06133-S139 (FCI 7111S2015X02 SIM HOLDER)
footprint SIMHOLDER_DUAL_FP (FCI "7111S2015X02" + LCN "CAF99-06153-S139" SIM HOLDER)
pins: 1 VSIM, 2 RST, 3 CLK, 4 GND, 5 NC, 6 DATA, M SHIELD

## Slider_4p
designator S?
4 POSITIONS SWITCH; Farnell Part Number: *; DigiKey Part Number: *
footprint CSS131XTB (SMD 4POS SWITCH COPAL ELECTRONICS)
pins: 1 IN1, 2 IN2, 3 OUT, 4 IN3

## SM712
designator D  Vbreakdown: 12V
TVS DIODE 12VWM 31VC SOT23; Manufacturer PartNum: SM712-02HTG; Manufacturer: Littelfuse Inc.; Digikey ref: F6450CT-ND
footprint sot23 (SOT23, 2.9x1.3mm, 3 leads)
pins: 1 tvs1, 2 tvs2, 3 common

## SMA_SMT_header
designator J?
Digikey ref: WM9357-ND; Farnell ref: 2293853
footprint SMA_SURFACE_MOUNT (SMA COAXIAL connector, Female type)
pins: 1 GND, 2 GND, 3 GND, 4 GND, 5 SIGNAL
text: SMA

## SMA_Through_hole_header_1
designator J?
Digikey ref: A97593-ND
footprint SMA_THROUGH_HOLE_RIGHT_ANGLE (SMA COAXIAL connector, Female type, right angle mount)
pins: 1 GND, 2 SIGNAL
text: SMA

## SMAJ5.0A
designator D
Farnell ref: 9550941
footprint DO214 (DO-214-AC/SMA; 2 C-Bend Leads; Body 5.3 x 2.6 mm, inc. leads (LxW))
pins: 1, 2

## SMAJxxCA
designator D  Vbreakdown: 30V
SMAJ Transient Voltage Suppressor Diode Series; Digikey ref: SMAJ30CABCT-ND
footprint DO-214AC (DO-214AC SMA case 4.25x2.6mm, height 2.3mm)
pins: 1, 2

## SMLP34
designator D
standard LED; Digikey ref: SMLP34RGB2W3CT-ND
footprint PICOLED_PACK (PICOLED RGB 4 pins led case, 1x1mm)
pins: 1, 2 R, 3 B, 4 G

## SN74AVC2T245
designator U
IC BUS TRANSCVR TRI-ST DL 10UQFN; Manufacturer: Texas Instruments; Manufacturer PartNum: SN74AVC2T245RSWR; Digikey ref: 296-23684-1-ND
footprint 10-UFQFN (plastic quad flatpack no-lead RSW R-PUQFN-N10 Texas Instruments)
pins: 1 DIR2, 2 ~{OE}, 3 GND, 4 B2, 5 B1, 6 VCCB, 7 VCCA, 8 A1, 9 A2, 10 DIR1

## SN74LV14ADR
designator U
SNx4LV14A Hex Schmitt-Trigger Inverters; Digikey ref: 296-1678-1-ND
footprint SOIC14 (14-Pin Narrow Body Small Outline Integrated Circuit 1.27 mm Pitch, IPC Low Density)
pins: 1 1A (in), 2 1Y (out), 3 2A (in), 4 2Y (out), 5 3A (in), 6 3Y (out), 7 GND, 8 4Y (out), 9 4A (in), 10 5Y (out), 11 5A (in), 12 6Y (out), 13 6A (in), 14 VCC
text: A; Y

## SN74LVC1G14
designator U
IC SCHMITT TRIG INV SOT-23-5; Manufacturer PartNum: SN74LVC1G14DBVR; Manufacturer: Texas Instruments; Digikey ref: 296-11607-1-ND
footprint SOT23-5
pins: 1 NC, 2 A (in), 3 GND, 4 Y (out), 5 VCC

## SN74LVC2G08DCU
designator U
DCU package, dual AND gate; Farnell ref: 1470869RL
footprint PDSO_G8 (DCU (R-PDSO-G8) TI, pitch 0.5mm, 3.2x1.9mm)
pins: 1 (in), 2 (in), 3 (out), 4 GND (power), 5 (in), 6 (in), 7 (out), 8 vcc (power)
text: &

## SN74LVC2G17
designator U
IC BUF NON-INVERT 5.5V SC70-6; Manufacturer: Texas Instruments; Manufacturer PartNum: SN74LVC2G17DCKR; Replacement part: ON Semi NC7WZ17P6X; Digikey ref: 296-13013-1-ND
footprint SC-70-6 (SC-70, 6 pins, pitch 0.65mm, case 2x1.25mm)
pins: 1 1A (in), 2 GND (power), 3 2A (in), 4 2Y (out), 5 VCC (power), 6 1Y (out)

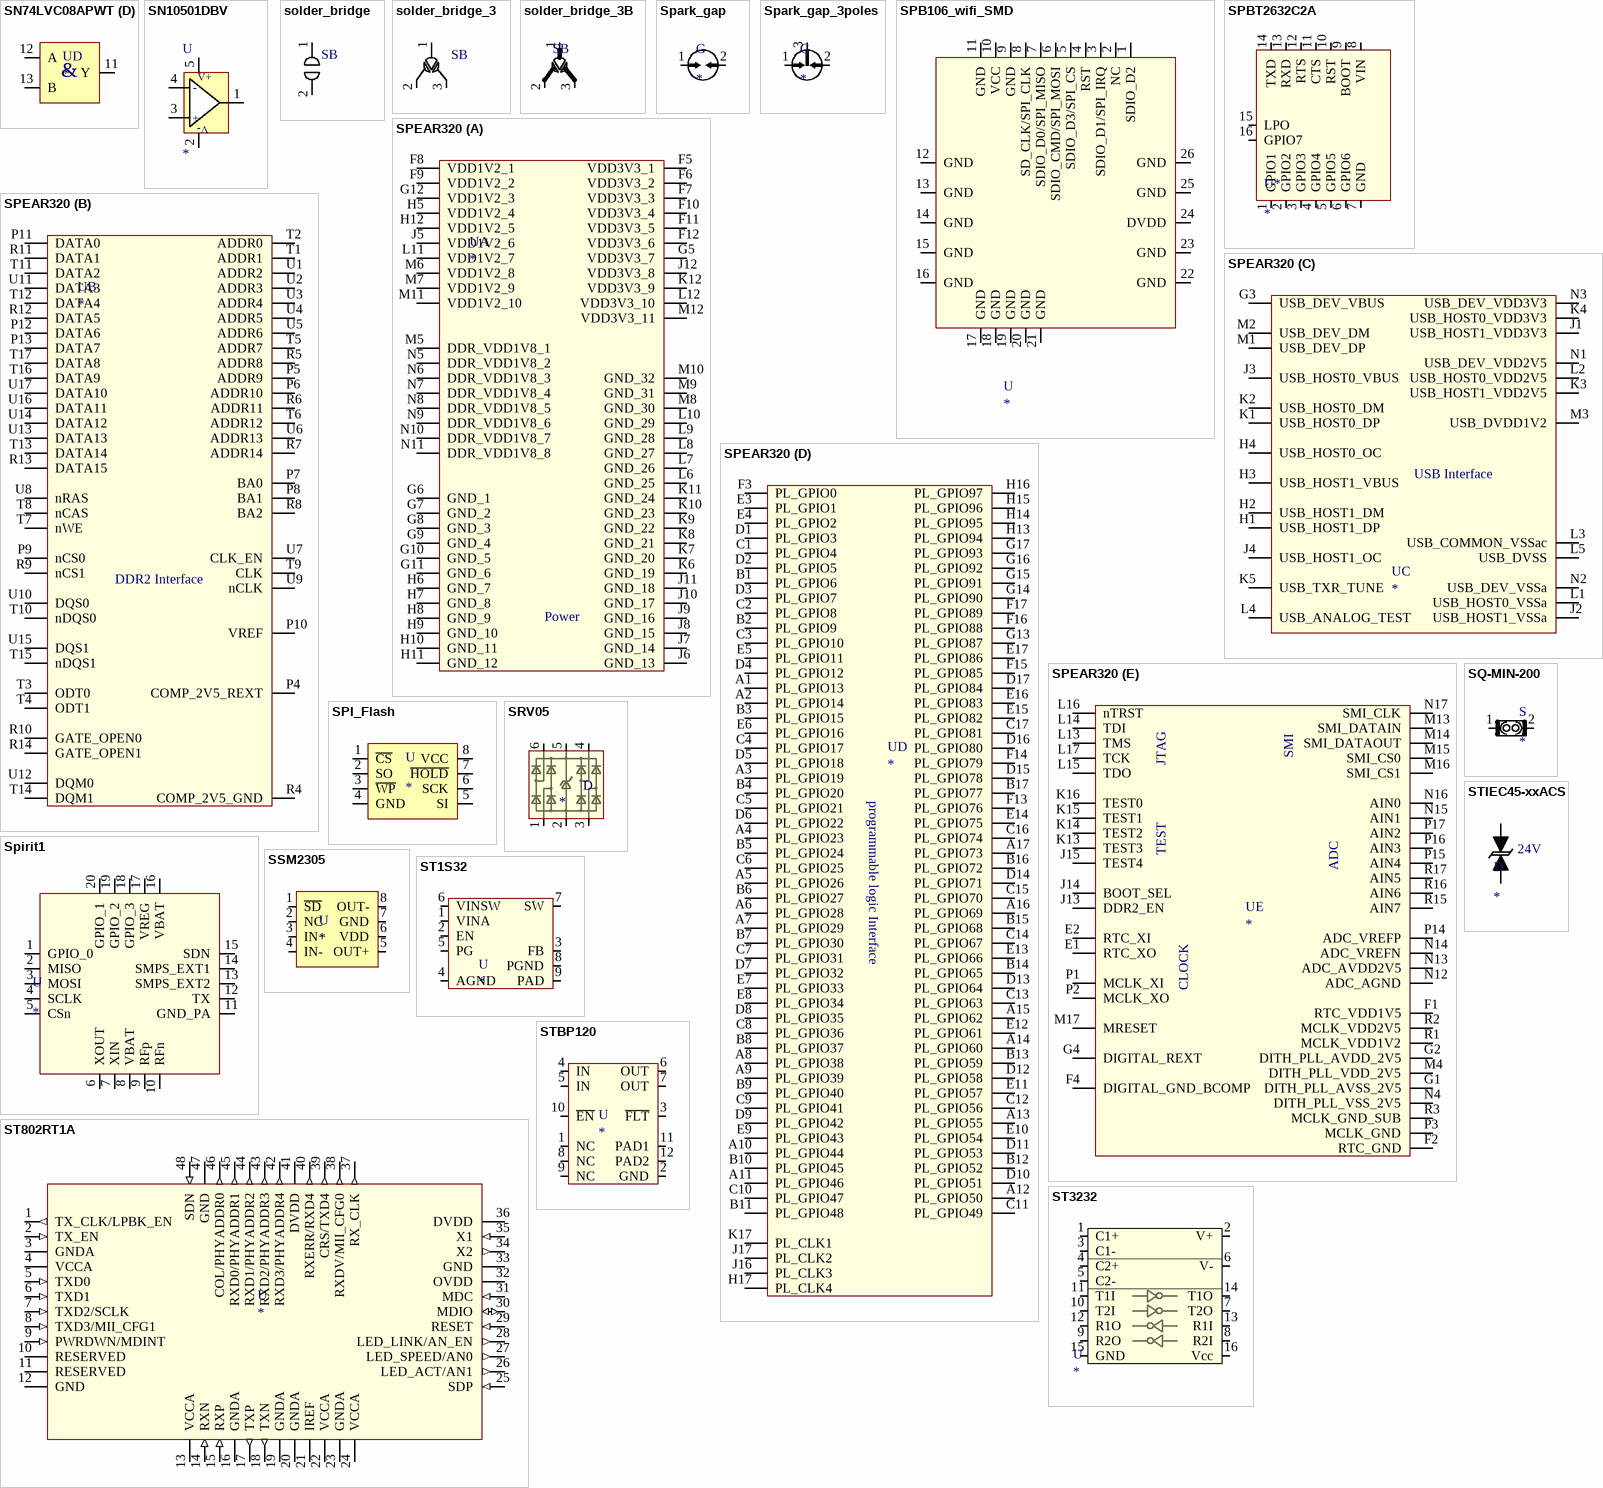
[diagram p12: symbols SN74LVC08APWT to STIEC45-xxACS]

## SN74LVC08APWT
designator U
Farnell ref: 1741241; Digikey ref: 296-1221-1-ND
footprint TSSOP-14 (TSOP, 14-Leads, Body 5x4.4mm, Pitch 0.65mm, IPC Medium Density)
part A pins: 1 A, 2 B, 3 Y, 7 GND, 14 VCC
part B pins: 4 A, 5 B, 6 Y
part C pins: 8 Y, 9 A, 10 B
part D pins: 11 Y, 12 A, 13 B
part A text: Vcc; &; Gnd
part B text: &
part C text: &
part D text: &

## SN10501DBV
designator U
Farnell ref: 1754973
footprint SOT23-5 (SOT23, 5 pins, pitch 0.95mm, case 3x1.6mm)
pins: 1, 2, 3, 4, 5 V+
text: -; +; V-

## solder_bridge
designator SB  (value not drawn)  (no BOM)
footprint solder_bridge_2
footprint solder_bridge_2B (bigger solder bridge)
footprint solder_bridge_2_thin
pins: 1, 2

## solder_bridge_3
designator SB  (value not drawn)  (no BOM)
footprint solder_bridge_3
pins: 1, 2, 3

## solder_bridge_3B
designator SB  (value not drawn)  (no BOM)
footprint solder_bridge_3B
pins: 1, 2, 3

## Spark_gap
designator G  (no BOM)
PCB spark gap, 2 poles, ~1kV
footprint SPARK_GAP (2-poles spark gap, 0.125mm clearance:~1000V)
pins: 1 C1, 2 C2

## Spark_gap_3poles
designator G  (no BOM)
PCB spark gap, 3 poles, ~1kV
footprint SPARK_GAP_3 (120 degrees 3-poles spark gap, 0.125mm clearance:~1000V)
pins: 1 C1, 2 C2, 3 C3

## SPB106_wifi_SMD
designator U
Farnell ref: 1839057
footprint SPB106_SMD_module (SPB106-WiFi 802.11b+g SMD WiFi Board)
pins: 1 SDIO_D2, 2 NC, 3 SDIO_D1/SPI_IRQ, 4 RST, 5 SDIO_D3/SPI_CS, 6 SDIO_CMD/SPI_MOSI, 7 SDIO_D0/SPI_MISO, 8 SD_CLK/SPI_CLK, 9 GND, 10 VCC, 11 GND, 12 GND, 13 GND, 14 GND, 15 GND, 16 GND, 17 GND, 18 GND, 19 GND, 20 GND, 21 GND, 22 GND, 23 GND, 24 DVDD, 25 GND, 26 GND

## SPBT2632C2A
designator U*
Digikey ref: 497-13189-ND; Farnell ref: *; status: *
footprint SPBT2632C2A (ST Micro mini Bluetooth Module)
pins: 1 GPIO1, 2 GPIO2, 3 GPIO3, 4 GPIO4, 5 GPIO5, 6 GPIO6, 7 GND, 8 VIN, 9 BOOT, 10 RST, 11 CTS, 12 RTS, 13 RXD, 14 TXD, 15 LPO, 16 GPIO7

## SPEAR320
designator U
Digikey ref: 497-10843-ND
footprint LFBGA289 (LFBGA289 (15x15x1.7mm) ECOPACK, pitch 0.8mm, ball diam 0.5mm)
part A pins: F5 VDD3V3_1, F6 VDD3V3_2, F7 VDD3V3_3, F8 VDD1V2_1, F9 VDD1V2_2, F10 VDD3V3_4, F11 VDD3V3_5, F12 VDD3V3_6, G5 VDD3V3_7, G6 GND_1, G7 GND_2, G8 GND_3, G9 GND_4, G10 GND_5, G11 GND_6, G12 VDD1V2_3, H5 VDD1V2_4, H6 GND_7, H7 GND_8, H8 GND_9, H9 GND_10, H10 GND_11, H11 GND_12, H12 VDD1V2_5, J5 VDD1V2_6, J6 GND_13, J7 GND_14, J8 GND_15, J9 GND_16, J10 GND_17, J11 GND_18, J12 VDD3V3_8, K6 GND_19, K7 GND_20, K8 GND_21, K9 GND_22, K10 GND_23, K11 GND_24, K12 VDD3V3_9, L6 GND_25, L7 GND_26, L8 GND_27, L9 GND_28, L10 GND_29, L11 VDD1V2_7, L12 VDD3V3_10, M5 DDR_VDD1V8_1, M6 VDD1V2_8, M7 VDD1V2_9, M8 GND_30, M9 GND_31, M10 GND_32, M11 VDD1V2_10, M12 VDD3V3_11, N5 DDR_VDD1V8_2, N6 DDR_VDD1V8_3, N7 DDR_VDD1V8_4, N8 DDR_VDD1V8_5, N9 DDR_VDD1V8_6, N10 DDR_VDD1V8_7, N11 DDR_VDD1V8_8
part B pins: P4 COMP_2V5_REXT, P5 ADDR9, P6 ADDR10, P7 BA0, P8 BA1, P9 nCS0, P10 VREF, P11 DATA0, P12 DATA6, P13 DATA7, R4 COMP_2V5_GND, R5 ADDR8, R6 ADDR11, R7 ADDR14, R8 BA2, R9 nCS1, R10 GATE_OPEN0, R11 DATA1, R12 DATA5, R13 DATA15, R14 GATE_OPEN1, T1 ADDR1, T2 ADDR0, T3 ODT0, T4 ODT1, T5 ADDR7, T6 ADDR12, T7 nWE, T8 nCAS, T9 CLK, T10 nDQS0, T11 DATA2, T12 DATA4, T13 DATA14, T14 DQM1, T15 nDQS1, T16 DATA9, T17 DATA8, U1 ADDR2, U2 ADDR3, U3 ADDR4, U4 ADDR5, U5 ADDR6, U6 ADDR13, U7 CLK_EN, U8 nRAS, U9 nCLK, U10 DQS0, U11 DATA3, U12 DQM0, U13 DATA13, U14 DATA12, U15 DQS1, U16 DATA11, U17 DATA10
part C pins: G3 USB_DEV_VBUS, H1 USB_HOST1_DP, H2 USB_HOST1_DM, H3 USB_HOST1_VBUS, H4 USB_HOST0_OC, J1 USB_HOST1_VDD3V3, J2 USB_HOST1_VSSa, J3 USB_HOST0_VBUS, J4 USB_HOST1_OC, K1 USB_HOST0_DP, K2 USB_HOST0_DM, K3 USB_HOST1_VDD2V5, K4 USB_HOST0_VDD3V3, K5 USB_TXR_TUNE, L1 USB_HOST0_VSSa, L2 USB_HOST0_VDD2V5, L3 USB_COMMON_VSSac, L4 USB_ANALOG_TEST, L5 USB_DVSS, M1 USB_DEV_DP, M2 USB_DEV_DM, M3 USB_DVDD1V2, N1 USB_DEV_VDD2V5, N2 USB_DEV_VSSa, N3 USB_DEV_VDD3V3
part D pins: A1 PL_GPIO13, A2 PL_GPIO14, A3 PL_GPIO19, A4 PL_GPIO23, A5 PL_GPIO26, A6 PL_GPIO28, A7 PL_GPIO29, A8 PL_GPIO38, A9 PL_GPIO39, A10 PL_GPIO44, A11 PL_GPIO46, A12 PL_GPIO50, A13 PL_GPIO55, A14 PL_GPIO60, A15 PL_GPIO62, A16 PL_GPIO69, A17 PL_GPIO73, B1 PL_GPIO6, B2 PL_GPIO9, B3 PL_GPIO15, B4 PL_GPIO20, B5 PL_GPIO24, B6 PL_GPIO27, B7 PL_GPIO30, B8 PL_GPIO37, B9 PL_GPIO40, B10 PL_GPIO45, B11 PL_GPIO48, B12 PL_GPIO52, B13 PL_GPIO59, B14 PL_GPIO65, B15 PL_GPIO68, B16 PL_GPIO72, B17 PL_GPIO77, C1 PL_GPIO4, C2 PL_GPIO8, C3 PL_GPIO10, C4 PL_GPIO17, C5 PL_GPIO21, C6 PL_GPIO25, C7 PL_GPIO31, C8 PL_GPIO36, C9 PL_GPIO41, C10 PL_GPIO47, C11 PL_GPIO49, C12 PL_GPIO56, C13 PL_GPIO63, C14 PL_GPIO67, C15 PL_GPIO70, C16 PL_GPIO74, C17 PL_GPIO81, D1 PL_GPIO3, D2 PL_GPIO5, D3 PL_GPIO7, D4 PL_GPIO12, D5 PL_GPIO18, D6 PL_GPIO22, D7 PL_GPIO32, D8 PL_GPIO35, D9 PL_GPIO42, D10 PL_GPIO51, D11 PL_GPIO53, D12 PL_GPIO58, D13 PL_GPIO64, D14 PL_GPIO71, D15 PL_GPIO78, D16 PL_GPIO80, D17 PL_GPIO84, E3 PL_GPIO1, E4 PL_GPIO2, E5 PL_GPIO11, E6 PL_GPIO16, E7 PL_GPIO33, E8 PL_GPIO34, E9 PL_GPIO43, E10 PL_GPIO54, E11 PL_GPIO57, E12 PL_GPIO61, E13 PL_GPIO66, E14 PL_GPIO75, E15 PL_GPIO82, E16 PL_GPIO83, E17 PL_GPIO86, F3 PL_GPIO0, F13 PL_GPIO76, F14 PL_GPIO79, F15 PL_GPIO85, F16 PL_GPIO88, F17 PL_GPIO89, G13 PL_GPIO87, G14 PL_GPIO90, G15 PL_GPIO91, G16 PL_GPIO92, G17 PL_GPIO93, H13 PL_GPIO94, H14 PL_GPIO95, H15 PL_GPIO96, H16 PL_GPIO97, H17 PL_CLK4, J16 PL_CLK3, J17 PL_CLK2, K17 PL_CLK1
part E pins: E1 RTC_XO, E2 RTC_XI, F1 RTC_VDD1V5, F2 RTC_GND, F4 DIGITAL_GND_BCOMP, G1 DITH_PLL_AVSS_2V5, G2 DITH_PLL_AVDD_2V5, G4 DIGITAL_REXT, J13 DDR2_EN, J14 BOOT_SEL, J15 TEST4, K13 TEST3, K14 TEST2, K15 TEST1, K16 TEST0, L13 TMS, L14 TDI, L15 TDO, L16 nTRST, L17 TCK, M4 DITH_PLL_VDD_2V5, M13 SMI_DATAIN, M14 SMI_DATAOUT, M15 SMI_CS0, M16 SMI_CS1, M17 MRESET, N4 DITH_PLL_VSS_2V5, N12 ADC_AGND, N13 ADC_AVDD2V5, N14 ADC_VREFN, N15 AIN1, N16 AIN0, N17 SMI_CLK, P1 MCLK_XI, P2 MCLK_XO, P3 MCLK_GND, P14 ADC_VREFP, P15 AIN4, P16 AIN3, P17 AIN2, R1 MCLK_VDD1V2, R2 MCLK_VDD2V5, R3 MCLK_GND_SUB, R15 AIN7, R16 AIN6, R17 AIN5
part A text: Power
part B text: DDR2 Interface
part C text: USB Interface
part D text: programmable logic Interface
part E text: SMI; JTAG; TEST; ADC; CLOCK

## SPI_Flash
designator U
Generic symbol for SPI Flash memory; Manufacturer: *; Manufacturer PartNum: *
footprint soic8_208 (soic8 CMS 8 leads, pitch 1.27mm, JEDEC 208MIL)
pins: 1 ~{CS}, 2 SO, 3 ~{WP}, 4 GND, 5 SI, 6 SCK, 7 ~{HOLD}, 8 VCC, 9 PAD hidden

## Spirit1
designator U
Farnell ref: 2252359; Digikey ref: ?
footprint QFN20_LOW_DENSITY (QFN, 20-Leads, Body 4x4mm, Pitch 0.5mm, IPC Low Density)
pins: 1 GPIO_0, 2 MISO, 3 MOSI, 4 SCLK, 5 CSn, 6 XOUT, 7 XIN, 8 VBAT, 9 RFp, 10 RFn, 11 GND_PA, 12 TX, 13 SMPS_EXT2, 14 SMPS_EXT1, 15 SDN, 16 VBAT, 17 VREG, 18 GPIO_3, 19 GPIO_2, 20 GPIO_1

## SQ-MIN-200
designator S
SignalQuest ref: SQ-MIN-200
footprint SQ-MIN-200 (SignalQuest nano-power Tilt and Vibration sensor)
pins: 1, 2

## SRV05
designator D
TVS DIODE EN 61000-4-5 SOT23-6; Manufacturer: Littelfuse; Manufacturer PartNum: SRV05-4HTG; Digikey ref: F4204CT-ND
footprint SOT23-6_tight_pads (SOT23, 6 leads, pitch 0.95, 1.55x2.9mm)
pins: 1, 2, 3, 4, 5, 6

## SSM2305
designator U
IC AMP AUDIO 2.8W MONO D; Manufacturer: Analog Devices; Manufacturer PartNum: SSM2305CPZ-REEL7; Digikey ref: SSM2305CPZ-REEL7CT-ND
footprint 8LFCSP (8-Lead Lead Frame Chip Scale Package 3x3mm JEDEC MO-229-WEED)
pins: 1 ~{SD}, 2 NC, 3 IN+, 4 IN-, 5 OUT+, 6 VDD, 7 GND, 8 OUT-, 9 EP

## ST1S32
designator U
Farnell ref: *; Digikey ref: 497-13210-1-ND
footprint VFQFPN8 (VFQFPN 8 leads case 4x4mm, pitch 0.8mm)
pins: 1 VINA, 2 EN, 3 FB, 4 AGND, 5 PG, 6 VINSW, 7 SW, 8 PGND, 9 PAD

## ST802RT1A
designator U
Digikey ref: 497-10430-ND
footprint LQFP48 (Thin QFP, 48-Leads, Body 7x7mm, Pitch 0.5mm, IPC Medium Density)
pins: 1 TX_CLK/LPBK_EN (out), 2 TX_EN (in), 3 GNDA, 4 VCCA, 5 TXD0 (in), 6 TXD1 (in), 7 TXD2/SCLK (in), 8 TXD3/MII_CFG1 (in), 9 PWRDWN/MDINT (in), 10 RESERVED, 11 RESERVED, 12 GND, 13 VCCA, 14 RXN (in), 15 RXP (in), 16 GNDA, 17 TXP (out), 18 TXN (out), 19 GNDA, 20 GNDA, 21 IREF, 22 VCCA, 23 GNDA, 24 VCCA, 25 SDP (in), 26 LED_ACT/AN1 (out), 27 LED_SPEED/AN0 (out), 28 LED_LINK/AN_EN (out), 29 RESET (in), 30 MDIO (io), 31 MDC (in), 32 OVDD, 33 GND, 34 X2 (out), 35 X1 (in), 36 DVDD, 37 RX_CLK (out), 38 RXDV/MII_CFG0 (out), 39 CRS/TXD4 (out), 40 RXERR/RXD4 (out), 41 DVDD, 42 RXD3/PHYADDR4 (out), 43 RXD2/PHYADDR3 (out), 44 RXD1/PHYADDR2 (out), 45 RXD0/PHYADDR1 (out), 46 COL/PHYADDR0 (out), 47 GND, 48 SDN (in)

## ST3232
designator U
Farnell ref: 1366572; Digikey ref: 497-6535-1-ND
footprint TSSOP-ST16_N (TSOP, 16-Leads, Body 5x4.4mm, Pitch 0.65mm, IPC Medium Density)
pins: 1 C1+, 2 V+, 3 C1-, 4 C2+, 5 C2-, 6 V-, 7 T2O, 8 R2I, 9 R2O, 10 T2I, 11 T1I, 12 R1O, 13 R1I, 14 T1O, 15 GND, 16 Vcc

## STBP120
designator U
Digikey ref: 497-8982-1-ND
footprint TDFN_10 (TDFN-10-lead, body 2.5x2.0x0.75, pitch 0.5mm)
pins: 1 NC, 2 GND, 3 ~{FLT}, 4 IN, 5 IN, 6 OUT, 7 OUT, 8 NC, 9 NC, 10 ~{EN}, 11 PAD1, 12 PAD2

## STIEC45-xxACS
designator D  Vbreakdown: 24V
bidir TVS DIODE 24VWM 42VC DO214AB; Manufacturer PartNum: STIEC45-24ACS; Manufacturer: STMicroelectronics; Digikey ref: SMAJ30CABCT-ND
footprint DO-214AB (DO-214AB SMC case 8x5.9mm, height 2.2mm)
pins: 1, 2

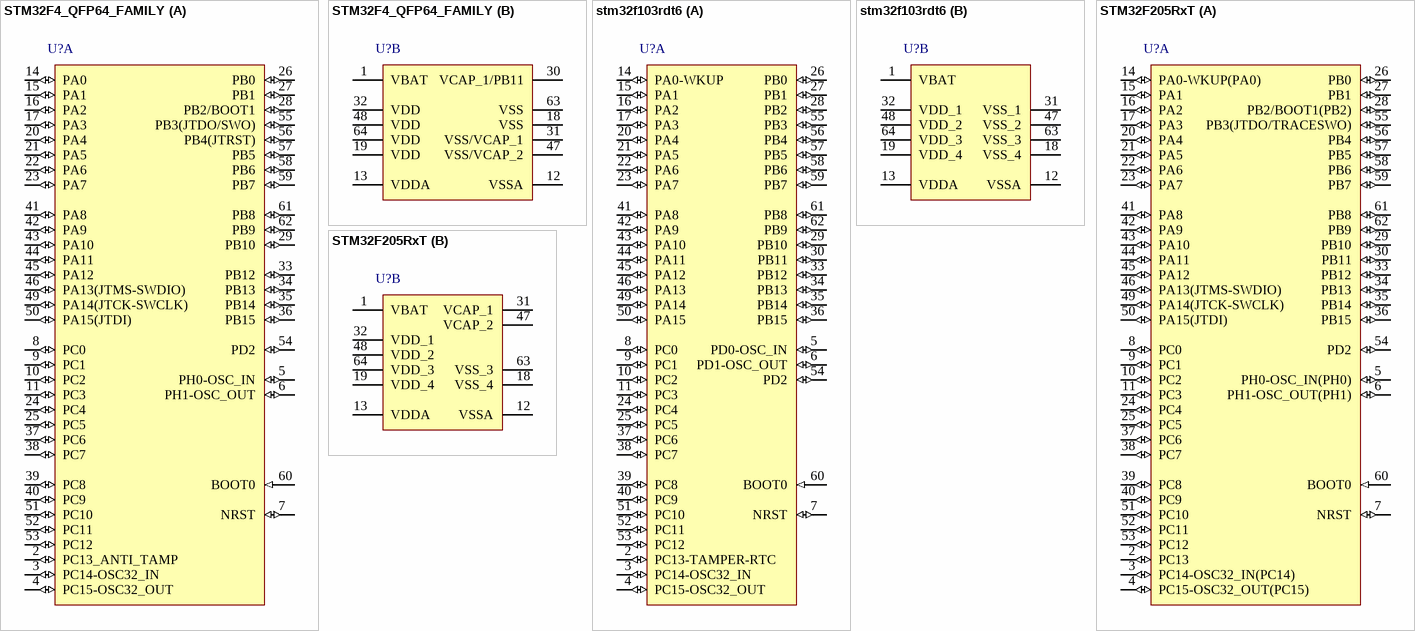
[diagram p13: symbols STM32F4_QFP64_FAMILY to STM32F205RxT]

## STM32F4_QFP64_FAMILY
designator U?
Family compatibility: STM32F42x, STM32F401, STM32F43x, STM32F41x, STM32F405 and STM32F407
footprint LQFP64 (Thin QFP, 64-Leads, Body 10x10mm, Pitch 0.5mm, IPC Medium Density)
part A pins: 2 PC13_ANTI_TAMP (io) "PC13/EVENTOUT/RTC_AF1", 3 PC14-OSC32_IN (io) "PC14-OSC32_IN/PC14/EVENTOUT/OSC32_IN", 4 PC15-OSC32_OUT (io) "PC15-OSC32_OUT/PC15/EVENTOUT/OSC32_OUT", 5 PH0-OSC_IN (io) "PH0-OSC_IN(PH0)/PH0/EVENTOUT/OSC_IN", 6 PH1-OSC_OUT (io) "PH1-OSC_OUT(PH1)/PH1/EVENTOUT/OSC_OUT", 7 NRST (io), 8 PC0 (io) "PC0/OTG_HS_ULPI_STP/EVENTOUT/ADC123_IN10", 9 PC1 (io) "PC1/ETH_MDC/EVENTOUT/ADC123_IN11", 10 PC2 (io) "PC2/SPI2_MISO/OTG_HS_ULPI_DIR/ETH_MII_TXD2/EVENTOUT/ADC123_IN12", 11 PC3 (io) "PC3/SPI2_MOSI/I2S2_SD/OTG_HS_ULPI_NXT/ETH_MII_TX_CLK/EVENTOUT/ADC123_IN13", 14 PA0 (io) "PA0-WKUP(PA0)/USART2_CTS/UART4_TX/ETH_MII_CRS/TIM2_CH1_ETR/TIM5_CH1/TIM8_ETR/EVENTOUT/ADC123_IN0/WKUP", 15 PA1 (io) "PA1/USART2_RTS/UART4_RX/ETH_RMII_REF_CLK/ETH_MII_RX_CLK/TIM5_CH2/TIM2_CH2/EVENTOUT/ADC123_IN1", 16 PA2 (io) "PA2/USART2_TX/TIM5_CH3/TIM9_CH1/TIM2_CH3/ETH_MDIO/EVENTOUT/ADC123_IN2", 17 PA3 (io) "PA3/USART2_RX/TIM5_CH4/TIM9_CH2/TIM2_CH4/OTG_HS_ULPI_D0/ETH_MII_COL/EVENTOUT/ADC123_IN3", 20 PA4 (io) "PA4/SPI1_NSS/SPI3_NSS/USART2_CK/DCMI_HSYNC/OTG_HS_SOF/I2S3_WS/EVENTOUT/ADC12_IN4/DAC_OUT1", 21 PA5 (io) "PA5/SPI1_SCK/OTG_HS_ULPI_CK/TIM2_CH1_ETR/TIM8_CH1N/EVENTOUT/ADC12_IN5/DAC_OUT2", 22 PA6 (io) "PA6/SPI1_MISO/TIM8_BKIN/TIM13_CH1/DCMI_PIXCLK/TIM3_CH1/TIM1_BKIN/EVENTOUT/ADC12_IN6", 23 PA7 (io) "PA7/SPI1_MOSI/TIM8_CH1N/TIM14_CH1/TIM3_CH2/ETH_MII_RX_DV/TIM1_CH1N/RMII_CRS_DV/EVENTOUT/ADC12_IN7", 24 PC4 (io) "PC4/ETH_RMII_RX_D0/ETH_MII_RX_D0/EVENTOUT/ADC12_IN14", 25 PC5 (io) "PC5/ETH_RMII_RX_D1/ETH_MII_RX_D1/EVENTOUT/ADC12_IN15", 26 PB0 (io) "PB0/TIM3_CH3/TIM8_CH2N/OTG_HS_ULPI_D1/ETH_MII_RXD2/TIM1_CH2N/EVENTOUT/ADC12_IN8", 27 PB1 (io) "PB1/TIM3_CH4/TIM8_CH3N/OTG_HS_ULPI_D2/ETH_MII_RXD3/TIM1_CH3N/EVENTOUT/ADC12_IN9", 28 PB2/BOOT1 (io) "PB2/PB2-BOOT1/EVENTOUT", 29 PB10 (io) "PB10/SPI2_SCK/I2S2_SCK/I2C2_SCL/USART3_TX/OTG_HS_ULPI_D3/ETH_MII_RX_ER/TIM2_CH3/EVENTOUT", 33 PB12 (io) "PB12/SPI2_NSS/I2S2_WS/I2C2_SMBA/USART3_CK/TIM1_BKIN/CAN2_RX/OTG_HS_ULPI_D5/ETH_RMII_TXD0/ETH_MII_TXD0/OTG_HS_ID/EVENTOUT", 34 PB13 (io) "PB13/SPI2_SCK/I2S2_SCK/USART3_CTS/TIM1_CH1N/CAN2_TX/OTG_HS_ULPI_D6/ETH_RMII_TXD1/ETH_MII_TXD1/EVENTOUT/OTG_HS_VBUS", 35 PB14 (io) "PB14/SPI2_MISO/TIM1_CH2N/TIM12_CH1/OTG_HS_DM/USART3_RTS/TIM8_CH2N/EVENTOUT", 36 PB15 (io) "PB15/SPI2_MOSI/I2S2_SD/TIM1_CH3N/TIM8_CH3N/TIM12_CH2/OTG_HS_DP/RTC_50Hz/EVENTOUT", 37 PC6 (io) "PC6/I2S2_MCK/TIM8_CH1/SDIO_D6/USART6_TX/DCMI_D0/TIM3_CH1/EVENTOUT", 38 PC7 (io) "PC7/I2S3_MCK/TIM8_CH2/SDIO_D7/USART6_RX/DCMI_D1/TIM3_CH2/EVENTOUT", 39 PC8 (io) "PC8/TIM8_CH3/SDIO_D0/TIM3_CH3/USART6_CK/DCMI_D2/EVENTOUT", 40 PC9 (io) "PC9/I2S2_CKIN/I2S3_CKIN/MCO2/TIM8_CH4/SDIO_D1/I2C3_SDA/DCMI_D3/TIM3_CH4/EVENTOUT", 41 PA8 (io) "PA8/MCO1/USART1_CK/TIM1_CH1/I2C3_SCL/OTG_FS_SOF/EVENTOUT", 42 PA9 (io) "PA9/USART1_TX/TIM1_CH2/I2C3_SMBA/DCMI_D0/EVENTOUT/OTG_FS_VBUS", 43 PA10 (io) "PA10/USART1_RX/TIM1_CH3/OTG_FS_ID/DCMI_D1/EVENTOUT", 44 PA11 (io) "PA11/USART1_CTS/CAN1_RX/TIM1_CH4/OTG_FS_DM/EVENTOUT", 45 PA12 (io) "PA12/USART1_RTS/CAN1_TX/TIM1_ETR/OTG_FS_DP/EVENTOUT", 46 PA13(JTMS-SWDIO) (io) "PA13/JTMS-SWDIO/EVENTOUT", 49 PA14(JTCK-SWCLK) (io) "PA14/JTCK-SWCLK/EVENTOUT", 50 PA15(JTDI) (io) "PA15/JTDI/SPI3_NSS/I2S3_WS/TIM2_CH1_ETR/SPI1_NSS/EVENTOUT", 51 PC10 (io) "PC10/SPI3_SCK/I2S3_SCK/UART4_TX/SDIO_D2/DCMI_D8/USART3_TX/EVENTOUT", 52 PC11 (io) "PC11/UART4_RX/SPI3_MISO/SDIO_D3/DCMI_D4/USART3_RX/EVENTOUT", 53 PC12 (io) "PC12/UART5_TX/SDIO_CK/DCMI_D9/SPI3_MOSI/I2S3_SD/USART3_CK/EVENTOUT", 54 PD2 (io) "PD2/TIM3_ETR/UART5_RX/SDIO_CMD/DCMI_D11/EVENTOUT", 55 PB3(JTDO/SWO) (io) "PB3/JTDO/TRACESWO/SPI3_SCK/I2S3_SCK/TIM2_CH2/SPI1_SCK/EVENTOUT", 56 PB4(JTRST) (io) "PB4/NJTRST/SPI3_MISO/TIM3_CH1/SPI1_MISO/EVENTOUT", 57 PB5 (io) "PB5/I2C1_SMBA/CAN2_RX/OTG_HS_ULPI_D7/ETH_PPS_OUT/TIM3_CH2/SPI1_MOSI/SPI3_MOSI/DCMI_D10/I2S3_SD/EVENTOUT", 58 PB6 (io) "PB6/I2C1_SCL/TIM4_CH1/CAN2_TX/DCMI_D5/USART1_TX/EVENTOUT", 59 PB7 (io) "PB7/I2C1_SDA/FSMC_NL/DCMI_VSYNC/USART1_RX/TIM4_CH2/EVENTOUT", 60 BOOT0 (in) "BOOT0/VPP", 61 PB8 (io) "PB8/TIM4_CH3/SDIO_D4/TIM10_CH1/DCMI_D6/ETH_MII_TXD3/I2C1_SCL/CAN1_RX/EVENTOUT", 62 PB9 (io) "PB9/SPI2_NSS/I2S2_WS/TIM4_CH4/TIM11_CH1/SDIO_D5/DCMI_D7/I2C1_SDA/CAN1_TX/EVENTOUT"
part B pins: 1 VBAT (power), 12 VSSA (power), 13 VDDA (power), 18 VSS (power) "VSS_4", 19 VDD (power) "VDD_4", 30 VCAP_1/PB11 (power) "VCAP_1", 31 VSS/VCAP_1 (power) "VSS_4", 32 VDD (power) "VDD_1", 47 VSS/VCAP_2 (power) "VCAP_2", 48 VDD (power) "VDD_2", 63 VSS (power) "VSS_3", 64 VDD (power) "VDD_3"

## stm32f103rdt6
designator U?
Digikey ref: 497-11528-ND
footprint LQFP64 (Thin QFP, 64-Leads, Body 10x10mm, Pitch 0.5mm, IPC Medium Density)
part A pins: 2 PC13-TAMPER-RTC (io) "PC13-TAMPER-RTC/PC13/TAMPER-RTC", 3 PC14-OSC32_IN (io) "PC14-OSC32_IN/PC14/OSC32_IN", 4 PC15-OSC32_OUT (io) "PC15-OSC32_OUT/PC15/OSC32_OUT", 5 PD0-OSC_IN (io) "PD0/OSC_IN/CAN_RX", 6 PD1-OSC_OUT (io) "PD1/OSC_OUT/CAN_TX", 7 NRST (io), 8 PC0 (io) "PC0/ADC123_IN10", 9 PC1 (io) "PC1/ADC123_IN11", 10 PC2 (io) "PC2/ADC123_IN12", 11 PC3 (io) "PC3/ADC123_IN13", 14 PA0-WKUP (io) "PA0-WKUP/PA0/WKUP/USART2_CTS/ADC123_IN0/TIM2_CH1_ETR/TIM5_CH1/TIM8_ETR", 15 PA1 (io) "PA1/USART2_RTS/ADC123_IN1/TIM5_CH2/TIM2_CH2", 16 PA2 (io) "PA2/USART2_TX/TIM5_CH3/ADC123_IN2/TIM2_CH3", 17 PA3 (io) "PA3/USART2_RX/TIM5_CH4/ADC123_IN3/TIM2_CH4", 20 PA4 (io) "PA4/SPI1_NSS/USART2_CK/DAC_OUT1/ADC12_IN4", 21 PA5 (io) "PA5/SPI1_SCK/DAC_OUT2/ADC12_IN5", 22 PA6 (io) "PA6/SPI1_MISO/TIM8_BKIN/ADC12_IN6/TIM3_CH1/TIM1_BKIN", 23 PA7 (io) "PA7/SPI1_MOSI/TIM8_CH1N/ADC12_IN7/TIM3_CH2/TIM1_CH1N", 24 PC4 (io) "PC4/ADC12_IN14", 25 PC5 (io) "PC5/ADC12_IN15", 26 PB0 (io) "PB0/ADC12_IN8/TIM3_CH3/TIM8_CH2N/TIM1_CH2N", 27 PB1 (io) "PB1/ADC12_IN9/TIM3_CH4/TIM8_CH3N/TIM1_CH3N", 28 PB2 (io) "PB2/BOOT1", 29 PB10 (io) "PB10/I2C2_SCL/USART3_TX/TIM2_CH3", 30 PB11 (io) "PB11/I2C2_SDA/USART3_RX/TIM2_CH4", 33 PB12 (io) "PB12/SPI2_NSS/I2S2_WS/I2C2_SMBA/USART3_CK/TIM1_BKIN", 34 PB13 (io) "PB13/SPI2_SCK/I2S2_CK/USART3_CTS/TIM1_CH1N", 35 PB14 (io) "PB14/SPI2_MISO/TIM1_CH2N/USART3_RTS", 36 PB15 (io) "PB15/SPI2_MOSI/I2S2_SD/TIM1_CH3N", 37 PC6 (io) "PC6/I2S2_MCK/TIM8_CH1/SDIO_D6/TIM3_CH1", 38 PC7 (io) "PC7/I2S3_MCK/TIM8_CH2/SDIO_D7/TIM3_CH2", 39 PC8 (io) "PC8/TIM8_CH3/SDIO_D0/TIM3_CH3", 40 PC9 (io) "PC9/TIM8_CH4/SDIO_D1/TIM3_CH4", 41 PA8 (io) "PA8/USART1_CK/TIM1_CH1/MCO", 42 PA9 (io) "PA9/USART1_TX/TIM1_CH2", 43 PA10 (io) "PA10/USART1_RX/TIM1_CH3", 44 PA11 (io) "PA11/USART1_CTS/USBDM/CAN_RX/TIM1_CH4", 45 PA12 (io) "PA12/USART1_RTS/USBDP/CAN_TX/TIM1_ETR", 46 PA13 (io) "PA13/JTMS-SWDIO", 49 PA14 (io) "PA14/JTCK-SWCLK", 50 PA15 (io) "PA15/JTDI/SPI3_NSS/I2S3_WS/TIM2_CH1_ETR/SPI1_NSS", 51 PC10 (io) "PC10/UART4_TX/SDIO_D2/USART3_TX", 52 PC11 (io) "PC11/UART4_RX/SDIO_D3/USART3_RX", 53 PC12 (io) "PC12/UART5_TX/SDIO_CK/USART3_CK", 54 PD2 (io) "PD2/TIM3_ETR/UART5_RX/SDIO_CMD", 55 PB3 (io) "PB3/JTDO/SPI3_SCK/I2S3_CK/TRACESWO/TIM2_CH2/SPI1_SCK", 56 PB4 (io) "PB4/NJTRST/SPI3_MISO/TIM3_CH1/SPI1_MISO", 57 PB5 (io) "PB5/I2C1_SMBA/SPI3_MOSI/I2S3_SD/TIM3_CH2/SPI1_MOSI", 58 PB6 (io) "PB6/I2C1_SCL/TIM4_CH1/USART1_TX", 59 PB7 (io) "PB7/I2C1_SDA/TIM4_CH2/USART1_RX", 60 BOOT0 (in), 61 PB8 (io) "PB8/TIM4_CH3/SDIO_D4/I2C1_SCL/CAN_RX", 62 PB9 (io) "PB9/TIM4_CH4/SDIO_D5/I2C1_SDA/CAN_TX"
part B pins: 1 VBAT (power), 12 VSSA (power), 13 VDDA (power), 18 VSS_4 (power), 19 VDD_4 (power), 31 VSS_1 (power), 32 VDD_1 (power), 47 VSS_2 (power), 48 VDD_2 (power), 63 VSS_3 (power), 64 VDD_3 (power)

## STM32F205RxT
designator U?
Digikey ref: 497-11154-ND
footprint LQFP64 (Thin QFP, 64-Leads, Body 10x10mm, Pitch 0.5mm, IPC Medium Density)
part A pins: 2 PC13 (io) "PC13/EVENTOUT/RTC_AF1", 3 PC14-OSC32_IN(PC14) (io) "PC14-OSC32_IN/PC14/EVENTOUT/OSC32_IN", 4 PC15-OSC32_OUT(PC15) (io) "PC15-OSC32_OUT/PC15/EVENTOUT/OSC32_OUT", 5 PH0-OSC_IN(PH0) (io) "PH0-OSC_IN(PH0)/PH0/EVENTOUT/OSC_IN", 6 PH1-OSC_OUT(PH1) (io) "PH1-OSC_OUT(PH1)/PH1/EVENTOUT/OSC_OUT", 7 NRST (io), 8 PC0 (io) "PC0/OTG_HS_ULPI_STP/EVENTOUT/ADC123_IN10", 9 PC1 (io) "PC1/ETH_MDC/EVENTOUT/ADC123_IN11", 10 PC2 (io) "PC2/SPI2_MISO/OTG_HS_ULPI_DIR/ETH_MII_TXD2/EVENTOUT/ADC123_IN12", 11 PC3 (io) "PC3/SPI2_MOSI/I2S2_SD/OTG_HS_ULPI_NXT/ETH_MII_TX_CLK/EVENTOUT/ADC123_IN13", 14 PA0-WKUP(PA0) (io) "PA0-WKUP(PA0)/USART2_CTS/UART4_TX/ETH_MII_CRS/TIM2_CH1_ETR/TIM5_CH1/TIM8_ETR/EVENTOUT/ADC123_IN0/WKUP", 15 PA1 (io) "PA1/USART2_RTS/UART4_RX/ETH_RMII_REF_CLK/ETH_MII_RX_CLK/TIM5_CH2/TIM2_CH2/EVENTOUT/ADC123_IN1", 16 PA2 (io) "PA2/USART2_TX/TIM5_CH3/TIM9_CH1/TIM2_CH3/ETH_MDIO/EVENTOUT/ADC123_IN2", 17 PA3 (io) "PA3/USART2_RX/TIM5_CH4/TIM9_CH2/TIM2_CH4/OTG_HS_ULPI_D0/ETH_MII_COL/EVENTOUT/ADC123_IN3", 20 PA4 (io) "PA4/SPI1_NSS/SPI3_NSS/USART2_CK/DCMI_HSYNC/OTG_HS_SOF/I2S3_WS/EVENTOUT/ADC12_IN4/DAC_OUT1", 21 PA5 (io) "PA5/SPI1_SCK/OTG_HS_ULPI_CK/TIM2_CH1_ETR/TIM8_CH1N/EVENTOUT/ADC12_IN5/DAC_OUT2", 22 PA6 (io) "PA6/SPI1_MISO/TIM8_BKIN/TIM13_CH1/DCMI_PIXCLK/TIM3_CH1/TIM1_BKIN/EVENTOUT/ADC12_IN6", 23 PA7 (io) "PA7/SPI1_MOSI/TIM8_CH1N/TIM14_CH1/TIM3_CH2/ETH_MII_RX_DV/TIM1_CH1N/RMII_CRS_DV/EVENTOUT/ADC12_IN7", 24 PC4 (io) "PC4/ETH_RMII_RX_D0/ETH_MII_RX_D0/EVENTOUT/ADC12_IN14", 25 PC5 (io) "PC5/ETH_RMII_RX_D1/ETH_MII_RX_D1/EVENTOUT/ADC12_IN15", 26 PB0 (io) "PB0/TIM3_CH3/TIM8_CH2N/OTG_HS_ULPI_D1/ETH_MII_RXD2/TIM1_CH2N/EVENTOUT/ADC12_IN8", 27 PB1 (io) "PB1/TIM3_CH4/TIM8_CH3N/OTG_HS_ULPI_D2/ETH_MII_RXD3/TIM1_CH3N/EVENTOUT/ADC12_IN9", 28 PB2/BOOT1(PB2) (io) "PB2/PB2-BOOT1/EVENTOUT", 29 PB10 (io) "PB10/SPI2_SCK/I2S2_SCK/I2C2_SCL/USART3_TX/OTG_HS_ULPI_D3/ETH_MII_RX_ER/TIM2_CH3/EVENTOUT", 30 PB11 (io) "PB11/I2C2_SDA/USART3_RX/OTG_HS_ULPI_D4/ETH_RMII_TX_EN/ETH_MII_TX_EN/TIM2_CH4/EVENTOUT", 33 PB12 (io) "PB12/SPI2_NSS/I2S2_WS/I2C2_SMBA/USART3_CK/TIM1_BKIN/CAN2_RX/OTG_HS_ULPI_D5/ETH_RMII_TXD0/ETH_MII_TXD0/OTG_HS_ID/EVENTOUT", 34 PB13 (io) "PB13/SPI2_SCK/I2S2_SCK/USART3_CTS/TIM1_CH1N/CAN2_TX/OTG_HS_ULPI_D6/ETH_RMII_TXD1/ETH_MII_TXD1/EVENTOUT/OTG_HS_VBUS", 35 PB14 (io) "PB14/SPI2_MISO/TIM1_CH2N/TIM12_CH1/OTG_HS_DM/USART3_RTS/TIM8_CH2N/EVENTOUT", 36 PB15 (io) "PB15/SPI2_MOSI/I2S2_SD/TIM1_CH3N/TIM8_CH3N/TIM12_CH2/OTG_HS_DP/RTC_50Hz/EVENTOUT", 37 PC6 (io) "PC6/I2S2_MCK/TIM8_CH1/SDIO_D6/USART6_TX/DCMI_D0/TIM3_CH1/EVENTOUT", 38 PC7 (io) "PC7/I2S3_MCK/TIM8_CH2/SDIO_D7/USART6_RX/DCMI_D1/TIM3_CH2/EVENTOUT", 39 PC8 (io) "PC8/TIM8_CH3/SDIO_D0/TIM3_CH3/USART6_CK/DCMI_D2/EVENTOUT", 40 PC9 (io) "PC9/I2S2_CKIN/I2S3_CKIN/MCO2/TIM8_CH4/SDIO_D1/I2C3_SDA/DCMI_D3/TIM3_CH4/EVENTOUT", 41 PA8 (io) "PA8/MCO1/USART1_CK/TIM1_CH1/I2C3_SCL/OTG_FS_SOF/EVENTOUT", 42 PA9 (io) "PA9/USART1_TX/TIM1_CH2/I2C3_SMBA/DCMI_D0/EVENTOUT/OTG_FS_VBUS", 43 PA10 (io) "PA10/USART1_RX/TIM1_CH3/OTG_FS_ID/DCMI_D1/EVENTOUT", 44 PA11 (io) "PA11/USART1_CTS/CAN1_RX/TIM1_CH4/OTG_FS_DM/EVENTOUT", 45 PA12 (io) "PA12/USART1_RTS/CAN1_TX/TIM1_ETR/OTG_FS_DP/EVENTOUT", 46 PA13(JTMS-SWDIO) (io) "PA13/JTMS-SWDIO/EVENTOUT", 49 PA14(JTCK-SWCLK) (io) "PA14/JTCK-SWCLK/EVENTOUT", 50 PA15(JTDI) (io) "PA15/JTDI/SPI3_NSS/I2S3_WS/TIM2_CH1_ETR/SPI1_NSS/EVENTOUT", 51 PC10 (io) "PC10/SPI3_SCK/I2S3_SCK/UART4_TX/SDIO_D2/DCMI_D8/USART3_TX/EVENTOUT", 52 PC11 (io) "PC11/UART4_RX/SPI3_MISO/SDIO_D3/DCMI_D4/USART3_RX/EVENTOUT", 53 PC12 (io) "PC12/UART5_TX/SDIO_CK/DCMI_D9/SPI3_MOSI/I2S3_SD/USART3_CK/EVENTOUT", 54 PD2 (io) "PD2/TIM3_ETR/UART5_RX/SDIO_CMD/DCMI_D11/EVENTOUT", 55 PB3(JTDO/TRACESWO) (io) "PB3/JTDO/TRACESWO/SPI3_SCK/I2S3_SCK/TIM2_CH2/SPI1_SCK/EVENTOUT", 56 PB4 (io) "PB4/NJTRST/SPI3_MISO/TIM3_CH1/SPI1_MISO/EVENTOUT", 57 PB5 (io) "PB5/I2C1_SMBA/CAN2_RX/OTG_HS_ULPI_D7/ETH_PPS_OUT/TIM3_CH2/SPI1_MOSI/SPI3_MOSI/DCMI_D10/I2S3_SD/EVENTOUT", 58 PB6 (io) "PB6/I2C1_SCL/TIM4_CH1/CAN2_TX/DCMI_D5/USART1_TX/EVENTOUT", 59 PB7 (io) "PB7/I2C1_SDA/FSMC_NL/DCMI_VSYNC/USART1_RX/TIM4_CH2/EVENTOUT", 60 BOOT0 (in) "BOOT0/VPP", 61 PB8 (io) "PB8/TIM4_CH3/SDIO_D4/TIM10_CH1/DCMI_D6/ETH_MII_TXD3/I2C1_SCL/CAN1_RX/EVENTOUT", 62 PB9 (io) "PB9/SPI2_NSS/I2S2_WS/TIM4_CH4/TIM11_CH1/SDIO_D5/DCMI_D7/I2C1_SDA/CAN1_TX/EVENTOUT"
part B pins: 1 VBAT (power), 12 VSSA (power), 13 VDDA (power), 18 VSS_4 (power), 19 VDD_4 (power), 31 VCAP_1 (power), 32 VDD_1 (power), 47 VCAP_2 (power), 48 VDD_2 (power), 63 VSS_3 (power), 64 VDD_3 (power)

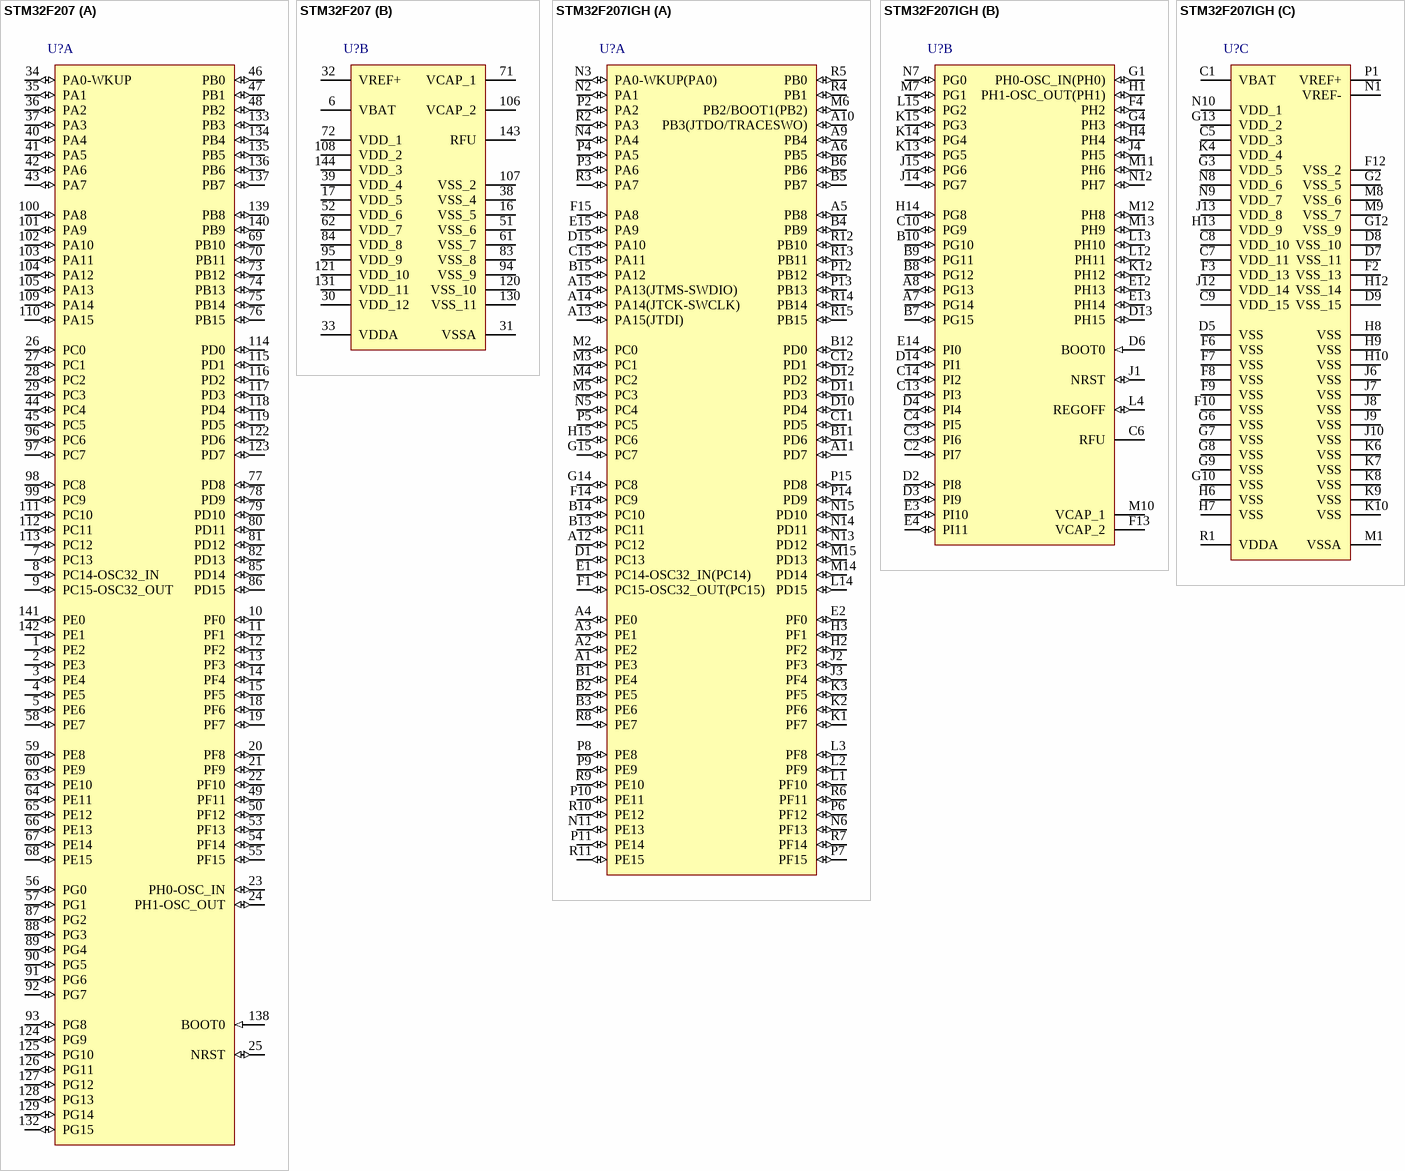
[diagram p14: symbols STM32F207 to STM32F207IGH]

## STM32F207
designator U?
Farnell ref: 2060918; Digikey ref: 497-11176-ND
footprint LQFP144_N (Thin QFP, 144-Leads, Body 20x20mm, Pitch 0.5mm, IPC Medium Density)
part A pins: 1 PE2 (io), 2 PE3 (io), 3 PE4 (io), 4 PE5 (io), 5 PE6 (io), 7 PC13 (io), 8 PC14-OSC32_IN (io), 9 PC15-OSC32_OUT (io), 10 PF0 (io), 11 PF1 (io), 12 PF2 (io), 13 PF3 (io), 14 PF4 (io), 15 PF5 (io), 18 PF6 (io), 19 PF7 (io), 20 PF8 (io), 21 PF9 (io), 22 PF10 (io), 23 PH0-OSC_IN (io), 24 PH1-OSC_OUT (io), 25 NRST (io), 26 PC0 (io), 27 PC1 (io), 28 PC2 (io), 29 PC3 (io), 34 PA0-WKUP (io), 35 PA1 (io), 36 PA2 (io), 37 PA3 (io), 40 PA4 (io), 41 PA5 (io), 42 PA6 (io), 43 PA7 (io), 44 PC4 (io), 45 PC5 (io), 46 PB0 (io), 47 PB1 (io), 48 PB2 (io), 49 PF11 (io), 50 PF12 (io), 53 PF13 (io), 54 PF14 (io), 55 PF15 (io), 56 PG0 (io), 57 PG1 (io), 58 PE7 (io), 59 PE8 (io), 60 PE9 (io), 63 PE10 (io), 64 PE11 (io), 65 PE12 (io), 66 PE13 (io), 67 PE14 (io), 68 PE15 (io), 69 PB10 (io), 70 PB11 (io), 73 PB12 (io), 74 PB13 (io), 75 PB14 (io), 76 PB15 (io), 77 PD8 (io), 78 PD9 (io), 79 PD10 (io), 80 PD11 (io), 81 PD12 (io), 82 PD13 (io), 85 PD14 (io), 86 PD15 (io), 87 PG2 (io), 88 PG3 (io), 89 PG4 (io), 90 PG5 (io), 91 PG6 (io), 92 PG7 (io), 93 PG8 (io), 96 PC6 (io), 97 PC7 (io), 98 PC8 (io), 99 PC9 (io), 100 PA8 (io), 101 PA9 (io), 102 PA10 (io), 103 PA11 (io), 104 PA12 (io), 105 PA13 (io), 109 PA14 (io), 110 PA15 (io), 111 PC10 (io), 112 PC11 (io), 113 PC12 (io), 114 PD0 (io), 115 PD1 (io), 116 PD2 (io), 117 PD3 (io), 118 PD4 (io), 119 PD5 (io), 122 PD6 (io), 123 PD7 (io), 124 PG9 (io), 125 PG10 (io), 126 PG11 (io), 127 PG12 (io), 128 PG13 (io), 129 PG14 (io), 132 PG15 (io), 133 PB3 (io), 134 PB4 (io), 135 PB5 (io), 136 PB6 (io), 137 PB7 (io), 138 BOOT0 (in), 139 PB8 (io), 140 PB9 (io), 141 PE0 (io), 142 PE1 (io)
part B pins: 6 VBAT (power), 16 VSS_5 (power), 17 VDD_5 (power), 30 VDD_12 (power), 31 VSSA (power), 32 VREF+ (power), 33 VDDA (power), 38 VSS_4 (power), 39 VDD_4 (power), 51 VSS_6 (power), 52 VDD_6 (power), 61 VSS_7 (power), 62 VDD_7 (power), 71 VCAP_1, 72 VDD_1 (power), 83 VSS_8 (power), 84 VDD_8 (power), 94 VSS_9 (power), 95 VDD_9 (power), 106 VCAP_2, 107 VSS_2 (power), 108 VDD_2 (power), 120 VSS_10 (power), 121 VDD_10 (power), 130 VSS_11 (power), 131 VDD_11 (power), 143 RFU, 144 VDD_3 (power)